# Altium schematic symbol library OT Library.SchLib: 412 symbols (part 2 of 4)
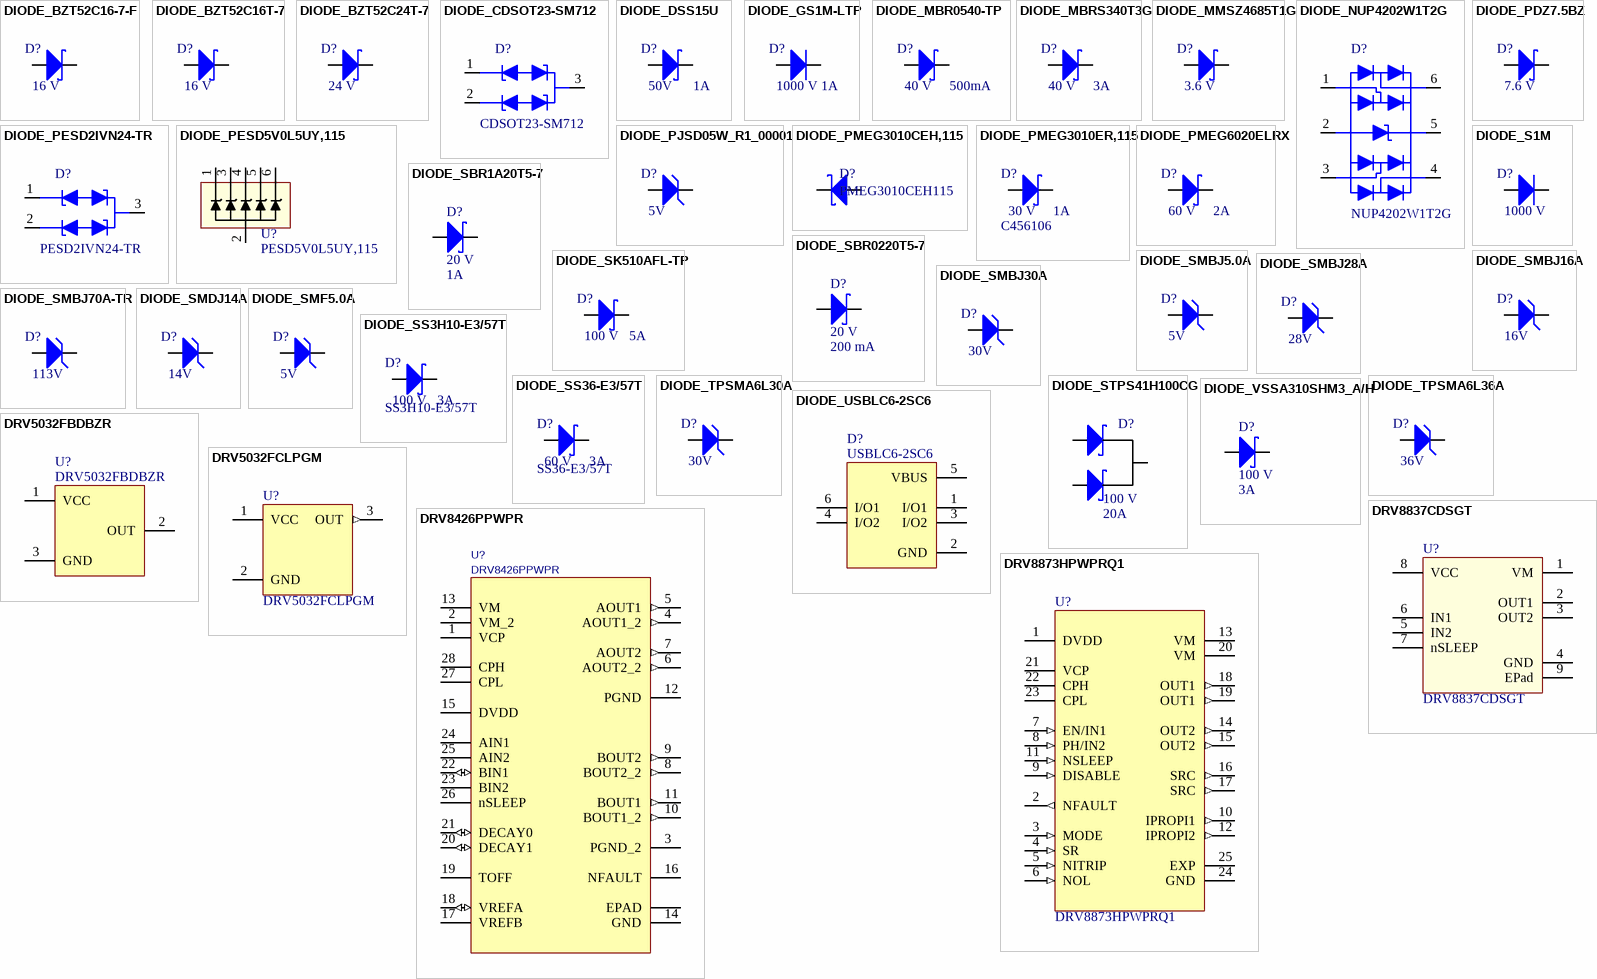
[diagram p14: symbols DIODE_BZT52C16-7-F to DRV8873HPWPRQ1]

## DIODE_PJSD05W_R1_00001
designator D?, comment Voltage - Reverse Standoff (Typ): 5V  (hidden comment: PJSD05W_R1_00001)
TVS DIODE 5VWM 9.8VC SOD323; Manufacturer: Panjit International Inc.; Manufacturer Part Number: PJSD05W_R1_00001
footprint SOD-323 (SC-76, SOD-323)
pins: 1 K, 2 A

## DIODE_PMEG3010CEH,115
designator D?, comment PMEG3010CEH115
Diode Schottky 30 V 1A (DC) Surface Mount SOD-123F; Manufacturer: NXP Semiconductors; Element Configuration: Single; Max Reverse Current: 50uA; Max Surge Current: 9A; Max Repetitive Reverse Voltage (Vrrm): 30V; Forward Voltage: 520mV; Supplier 1: Future Electronics; Manufacturer Part Number: PMEG3010CEH115; Stock 1: 0; Mount: Surface Mount; Number of Pins: 2; Min Operating Temperature: -65°C; Max Operating Temperature: 150°C; Packaging: Tape and Reel; Forward Current: 1A; Package Quantity: 1; Max Reverse Leakage Current: 50uA; Peak Non-Repetitive Surge Current: 9A; Average Rectified Current: 1A; Max Forward Surge Current (Ifsm): 9A; Max Reverse Voltage (DC): 30V; Series: 1A (DC); Length: 2.7mm; Width: 1.7mm; Height: 1.2mm; Radiation Hardening: No; Lead Free: Lead Free; ComponentLink1URL: http://www.nxp.com/documents/data_sheet/PMEG3010CEH_PMEG3010CEJ.pdf?src-supplier=Digi-Key; ComponentLink1Description: http://www.nxp.com/documents/data_sheet/PMEG3010CEH_PMEG3010CEJ.pdf?src-supplier=Digi-Key; ComponentLink2URL: http://www.nxp.com/documents/data_sheet/PMEG3010CEH_PMEG3010CEJ.pdf?src-supplier=Future+Electronics; ComponentLink2Description: http://www.nxp.com/documents/data_sheet/PMEG3010CEH_PMEG3010CEJ.pdf?src-supplier=Future+Electronics; Supplier Part Number 1: PMEG3010CEH,115
footprint SOD-123F
pins: 1 K, 2 A

## DIODE_PMEG3010ER,115
designator D?, comment Voltage - DC Reverse (Vr) (Max): 30 V  Current - Average Rectified (Io): 1A  LCSC Part: C456106  (hidden comment: PMEG3010ER,115)
DIODE SCHOTTKY 30V 1A SOD123W; Manufacturer: Nexperia USA Inc.; Manufacturer Part Number: PMEG3010ER,115; Datasheet: https://assets.nexperia.com/documents/data-sheet/PMEG3010ER.pdf
footprint SOD-123W
pins: 1 K, 2 A

## DIODE_PMEG6020ELRX
designator D?, comment Voltage - DC Reverse (Vr) (Max): 60 V  Current - Average Rectified (Io): 2A  (hidden comment: PMEG6020ELRX)
DIODE SCHOTTKY 60V 2A SOD123W; Manufacturer: Nexperia USA Inc.; Manufacturer Part Number: PMEG6020ELRX; Datasheet: https://assets.nexperia.com/documents/data-sheet/PMEG6020ELR.pdf
footprint SOD-123W
pins: 1 K, 2 A

## DIODE_S1M
designator D?, comment Voltage - DC Reverse (Vr) (Max): 1000 V  (hidden comment: S1M)
DIODE GEN PURP 1KV 1A SMA; Manufacturer: SMC Diode Solutions; Manufacturer Part Number: S1M; Current - Average Rectified (Io): 1A; LCSC Part: C232826
footprint DO-214AC (SMA)
pins: 1 K, 2 A

## DIODE_SBR1A20T5-7
designator D?, comment Voltage - DC Reverse (Vr) (Max): 20 V  Current - Average Rectified (Io): 1A  (hidden comment: SBR1A20T5-7)
DIODE SBR 20V 1A SOD523; Manufacturer: Diodes Incorporated; Manufacturer Part Number: SBR1A20T5-7; LCSC Part: C5157758
footprint SOD-523 (SC-79, SOD-523)
pins: 1 K, 2 A

## DIODE_SBR0220T5-7
designator D?, comment Voltage - DC Reverse (Vr) (Max): 20 V  Current - Average Rectified (Io): 200 mA  (hidden comment: SBR0220T5-7)
DIODE SBR 20V 200MA SOD523; Manufacturer: Diodes Incorporated; Manufacturer Part Number: SBR0220T5-7; LCSC Part: C700438
footprint SOD-523 (SC-79, SOD-523)
pins: 1 K, 2 A

## DIODE_SK510AFL-TP
designator D?, comment Voltage - DC Reverse (Vr) (Max): 100 V  Current - Average Rectified (Io): 5A  (hidden comment: SK510AFL-TP)
DIODE SCHOTTKY 100V 5A DO221AC; Manufacturer: Micro Commercial Co; Manufacturer Part Number: SK510AFL-TP; Datasheet: https://www.mccsemi.com/pdf/Products/SK52AFL-SK5200AFL(DO-221AC).pdf; LCSC Part: C5241914
footprint DO-221AC (SMA-FL)
pins: 1 K, 2 A

## DIODE_SMBJ5.0A
designator D?, comment Voltage - Reverse Standoff (Typ): 5V  (hidden comment: SMBJ5.0A)
TVS DIODE 5VWM 9.2VC DO214AA; Manufacturer: Littelfuse Inc.; Manufacturer Part Number: SMBJ5.0A; LCSC Part: C83333
footprint DO-214AA (SMBJ)
pins: 1 K, 2 A

## DIODE_SMBJ16A
designator D?, comment Voltage - Reverse Standoff (Typ): 16V  (hidden comment: SMBJ16A)
TVS DIODE 16VWM 26VC DO214AA; Manufacturer: Littelfuse Inc.; Manufacturer Part Number: SMBJ16A; Datasheet: https://www.littelfuse.com/~/media/electronics/datasheets/tvs_diodes/littelfuse_tvs_diode_smbj_datasheet.pdf.pdf; LCSC Part: C151254
footprint DO-214AA (SMBJ)
pins: 1 K, 2 A

## DIODE_SMBJ28A
designator D?, comment Voltage - Reverse Standoff (Typ): 28V  (hidden comment: SMBJ28A)
TVS DIODE 28VWM 45.4VC DO214AA; Manufacturer: Littelfuse Inc.; Manufacturer Part Number: SMBJ28A; LCSC Part: C178227
footprint DO-214AA (SMBJ)
pins: 1 K, 2 A

## DIODE_SMBJ30A
designator D?, comment Voltage - Reverse Standoff (Typ): 30V  (hidden comment: SMBJ30A)
TVS DIODE 30VWM 48.4VC DO214AA; Manufacturer: Littelfuse Inc.; Manufacturer Part Number: SMBJ30A; LCSC Part: C83851
footprint DO-214AA (SMBJ)
pins: 1 K, 2 A

## DIODE_SMBJ70A-TR
designator D?, comment Voltage - Reverse Standoff (Typ): 113V  (hidden comment: SMBJ70A-TR)
TVS DIODE 70VWM 113VC SMB; Manufacturer: STMicroelectronics; Manufacturer Part Number: SMBJ70A-TR
footprint DO-214AA (SMBJ)
pins: 1 K, 2 A

## DIODE_SMDJ14A
designator D?, comment Voltage - Reverse Standoff (Typ): 14V  (hidden comment: SMDJ14A)
TVS DIODE 14VWM 23.2VC DO214AB; Manufacturer: Littelfuse Inc.; Manufacturer Part Number: SMDJ14A; LCSC Part: C1975662
footprint DO-214AB (SMC)
pins: 1 K, 2 A

## DIODE_SMF5.0A
designator D?, comment Voltage - Reverse Standoff (Typ): 5V  (hidden comment: SMF5.0A)
TVS SOD123FL 5V 200W UNIDIR; Manufacturer: Littelfuse Inc.; Manufacturer Part Number: SMF5.0A
footprint SOD123FL
pins: 1 K, 2 A

## DIODE_SS3H10-E3/57T
designator D?, comment Voltage - DC Reverse (Vr) (Max): 100 V  Current - Average Rectified (Io): 3A  (hidden comment: SS3H10-E3/57T)
DIODE SCHOTTKY 100V 3A DO214AB; Manufacturer: Vishay General Semiconductor - Diodes Division; LCSC Part: C2927417; Manufacturer Part Number: SS3H10-E3/57T
footprint DO-214AB (SMC)
pins: 1 K, 2 A

## DIODE_SS36-E3/57T
designator D?, comment Voltage - DC Reverse (Vr) (Max): 60 V  Current - Average Rectified (Io): 3A  (hidden comment: SS36-E3/57T)
DIODE SCHOTTKY 60V 3A DO214AB; Manufacturer: Vishay General Semiconductor - Diodes Division; LCSC Part: C35722; Manufacturer Part Number: SS36-E3/57T
footprint DO-214AB (SMC)
pins: 1 K, 2 A

## DIODE_STPS41H100CG
designator D?, comment Voltage - DC Reverse (Vr) (Max): 100 V  Current - Average Rectified (Io): 20A  (hidden comment: STPS41H100CG)
DIODE ARR SCHOTT 100V 20A D2PAK; Manufacturer: STMicroelectronics; Manufacturer Part Number: STPS41H100CG; LCSC Part: C2970806
footprint PG-TO263-3 (TO-263-3, D2PAK (2 Leads + Tab), TO-263AB)
pins: 1 A, 2 K, 3 A

## DIODE_TPSMA6L30A
designator D?, comment Voltage - Reverse Standoff (Typ): 30V  (hidden comment: TPSMA6L30A)
TVS DIODE 30VWM 48.4VC DO221AC; Manufacturer: Littelfuse Inc.; Manufacturer Part Number: TPSMA6L30A; Datasheet: https://www.littelfuse.com/~/media/electronics/datasheets/tvs_diodes/littelfuse_tvs_diode_tpsma6l_datasheet.pdf.pdf
footprint DO-221AC (SMA-FL)
pins: 1 K, 2 A

## DIODE_TPSMA6L36A
designator D?, comment Voltage - Reverse Standoff (Typ): 36V  (hidden comment: TPSMA6L36A)
TVS DIODE 36VWM 58.1VC DO221AC; Manufacturer: Littelfuse Inc.; Manufacturer Part Number: TPSMA6L36A; Datasheet: https://www.littelfuse.com/~/media/electronics/datasheets/tvs_diodes/littelfuse_tvs_diode_tpsma6l_datasheet.pdf.pdf
footprint DO-221AC (SMA-FL)
pins: 1 K, 2 A

## DIODE_USBLC6-2SC6
designator D?, comment USBLC6-2SC6
TVS DIODE 5.25VWM 17VC SOT23-6; Manufacturer: STMicroelectronics; Voltage - Reverse Standoff (Typ): 5.25 V; Manufacturer Part Number: USBLC6-2SC6; Datasheet: https://www.st.com/content/ccc/resource/technical/document/datasheet/06/1d/48/9c/6c/20/4a/b2/CD00050750.pdf/files/CD00050750.pdf/jcr:content/translations/en.CD00050750.pdf; LCSC Part: C7519
footprint SOT-23-6
pins: 1 I/O1, 2 GND, 3 I/O2, 4 I/O2, 5 VBUS, 6 I/O1

## DIODE_VSSA310SHM3_A/H
designator D?, comment Voltage - DC Reverse (Vr) (Max): 100 V  Current - Average Rectified (Io): 3A  (hidden comment: VSSA310SHM3_A/H)
DIODE SCHOTTKY 100V 3A DO214AC; Manufacturer: Vishay General Semiconductor - Diodes Division; Manufacturer Part Number: VSSA310SHM3_A/H; Datasheet: https://www.vishay.com/docs/89405/vssa310s.pdf; LCSC Part: C282271
footprint DO-214AC (SMA)
pins: 1 K, 2 A

## DRV5032FBDBZR
designator U?
MAGNETIC SWITCH OMNIPOL SOT23-3; Manufacturer: Texas Instruments; Function: Omnipolar Switch; Polarization: North Pole, South Pole; Voltage - Supply: 1.65V ~ 5.5V; Current - Supply (Max): 1.8µA; Output Type: Push-Pull; Manufacturer Part Number: DRV5032FBDBZR; Category: Magnetic Sensors; Operating Temperature: -40°C ~ 85°C
footprint SOT-23 (TO-236AB)
pins: 1 VCC, 2 OUT, 3 GND

## DRV5032FCLPGM
designator U?
MAGNETIC SWITCH OMNIPOLAR TO92-3; Manufacturer: Texas Instruments; Manufacturer Part Number: DRV5032FCLPGM; LCSC Part: C2866256; LCSC Part 2: C2862715
footprint TO-92-3 (Footprint not found)
pins: 1 VCC (power), 2 GND (power), 3 OUT (out)

## DRV8426PPWPR
designator U?
35-V, 1.5-A BIPOLAR STEPPER OR D; Manufacturer: Texas Instruments; Manufacturer Part Number: DRV8426PPWPR; Datasheet: https://www.ti.com/general/docs/suppproductinfo.tsp?distId=10&gotoUrl=http%3A%2F%2Fwww.ti.com%2Flit%2Fgpn%2Fdrv8426e
footprint HTSSOP-28
pins: 1 VCP, 2 VM_2, 3 PGND_2 (power), 4 AOUT1_2 (out), 5 AOUT1 (out), 6 AOUT2_2 (out), 7 AOUT2 (out), 8 BOUT2_2 (out), 9 BOUT2 (out), 10 BOUT1_2 (out), 11 BOUT1 (out), 12 PGND (power), 13 VM, 14 GND (power), 15 DVDD (power), 16 NFAULT, 17 VREFB (power), 18 VREFA (io), 19 TOFF, 20 DECAY1 (io), 21 DECAY0 (io), 22 BIN1 (io), 23 BIN2, 24 AIN1, 25 AIN2, 26 nSLEEP, 27 CPL, 28 CPH, EPAD

## DRV8837CDSGT
designator U?
IC HALF-BRIDGE DRVR PWM 8WSON; Manufacturer: Texas Instruments; Manufacturer Part Number: DRV8837CDSGT; LCSC Part: C165115
footprint 8-WFDFN (2x2) Exposed Pad
pins: 1 VM, 2 OUT1, 3 OUT2, 4 GND, 5 IN2, 6 IN1, 7 nSLEEP, 8 VCC, 9 EPad

## DRV8873HPWPRQ1
designator U?
IC MOTOR DRIVER STEP 5V 24HTSSOP; Manufacturer: Texas Instruments; Manufacturer Part Number: DRV8873HPWPRQ1; LCSC Part: C2150604
footprint 24-HTSSOP (24-PowerTSSOP (0.173", 4.40mm Width))
pins: 1 DVDD (power), 2 NFAULT (out), 3 MODE (in), 4 SR (in), 5 NITRIP (in), 6 NOL (in), 7 EN/IN1 (in), 8 PH/IN2 (in), 9 DISABLE (in), 10 IPROPI1 (out), 11 NSLEEP (in), 12 IPROPI2 (out), 13 VM (power), 14 OUT2 (out), 15 OUT2 (out), 16 SRC (out), 17 SRC (out), 18 OUT1 (out), 19 OUT1 (out), 20 VM (power), 21 VCP (power), 22 CPH (power), 23 CPL (power), 24 GND (power), 25 EXP

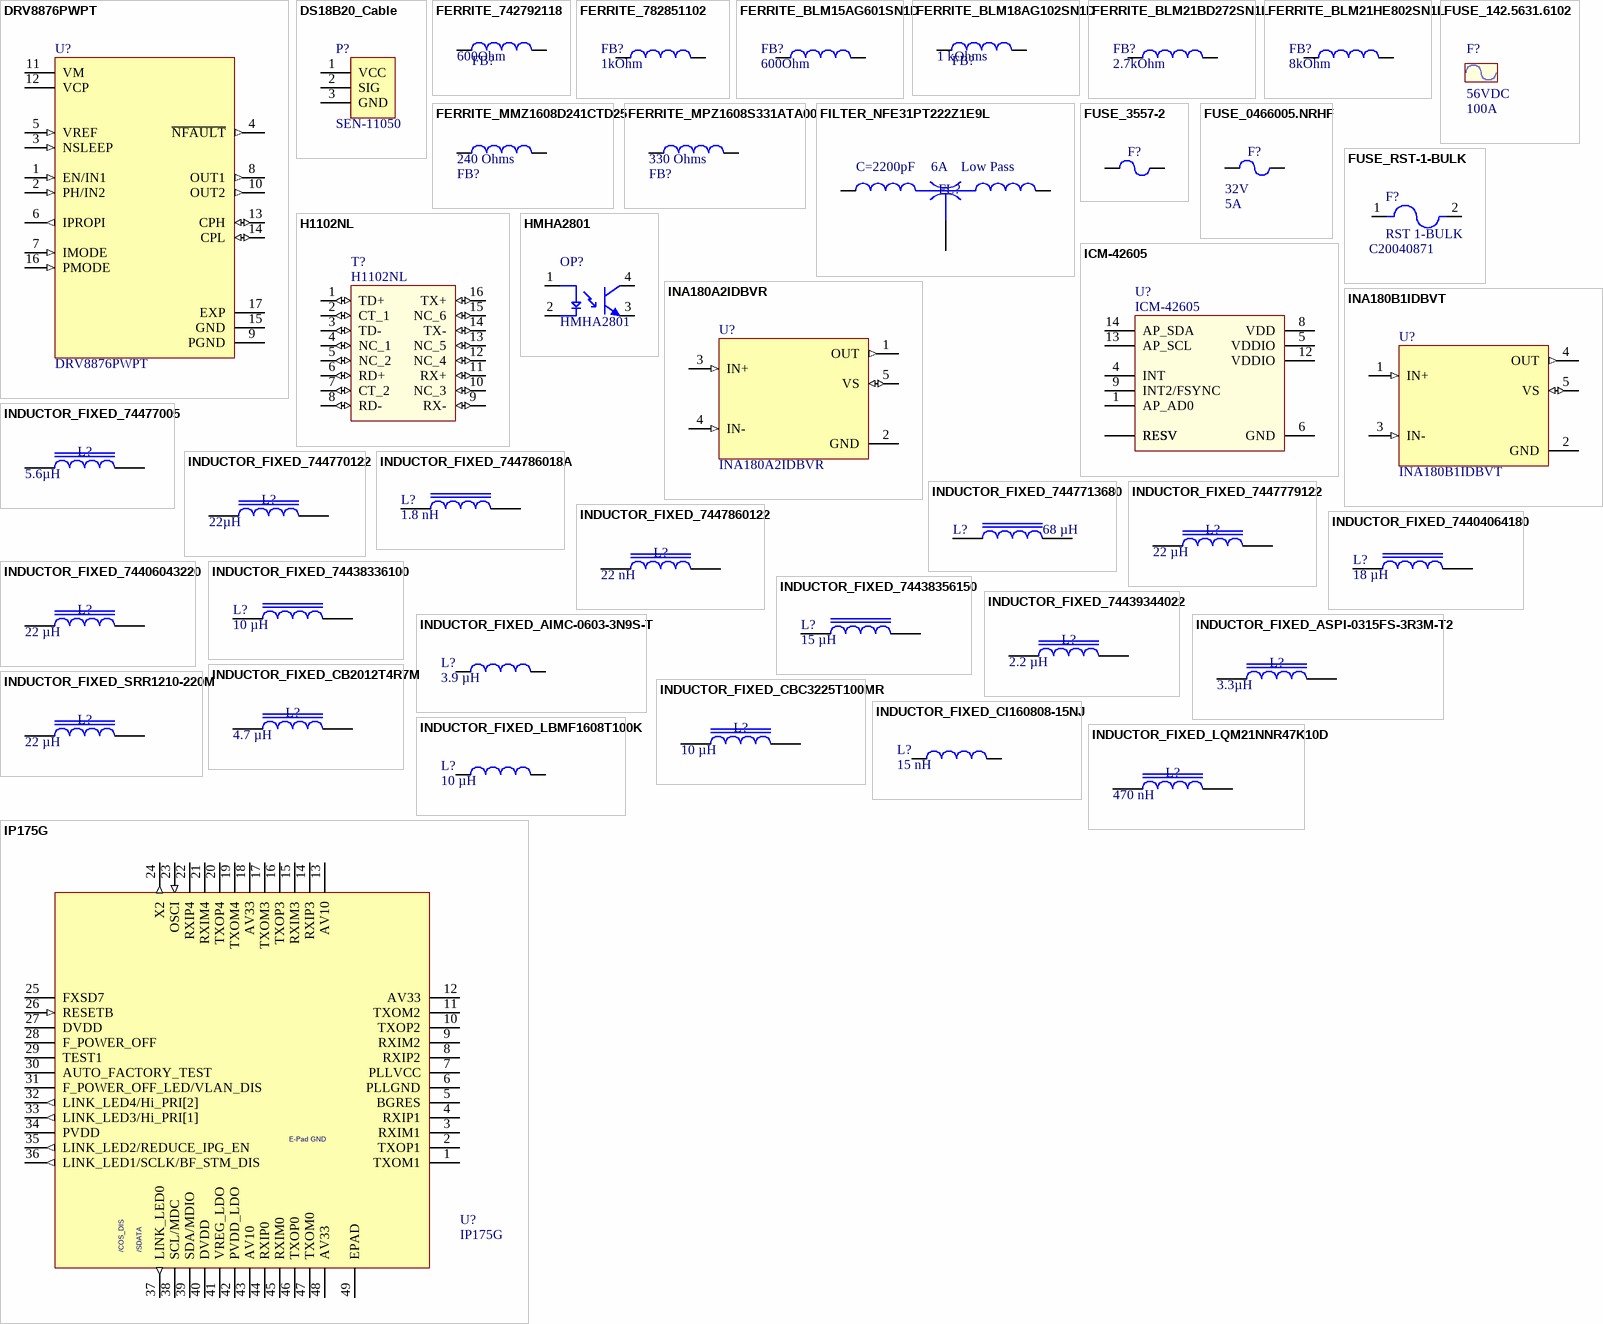
[diagram p5: symbols DRV8876PWPT to IP175G]

## DRV8876PWPT
designator U?
IC MOTOR DRIVER DC 5.5V 16HTSSOP; Manufacturer: Texas Instruments; Manufacturer Part Number: DRV8876PWPT; Datasheet: https://www.ti.com/general/docs/suppproductinfo.tsp?distId=10&gotoUrl=https%3A%2F%2Fwww.ti.com%2Flit%2Fgpn%2Fdrv8876; LCSC Part: C575551
footprint 16-HTSSOP (16-PowerTSSOP (0.173", 4.40mm Width))
pins: 1 EN/IN1 (in), 2 PH/IN2 (in), 3 NSLEEP (in), 4 ~{NFAULT} (out), 5 VREF (in), 6 IPROPI (out), 7 IMODE (in), 8 OUT1 (out), 9 PGND (power), 10 OUT2 (out), 11 VM (power), 12 VCP (power), 13 CPH (io), 14 CPL (io), 15 GND (power), 16 PMODE (in), 17 EXP

## DS18B20_Cable
designator P?, comment SEN-11050
TEMP SENSOR WTRPRF DS18B20 11050; Manufacturer: SparkFun Electronics; Manufacturer Part Number: SEN-11050
footprint DS18B20_Cable (Footprint not found)
pins: 1 VCC, 2 SIG, 3 GND

## FERRITE_742792118
designator FB?, comment Impedance @100MHz: 600Ohm  (hidden comment: 742792118)
FERRITE BEAD 600 OHM 1206 1LN; Manufacturer: Wurth Elektronik; DC Resistance Max: 0.07Ohm; Impedance Max: 650Ohm; Impedance Max Test Condition: 80MHz; Manufacturer Part Number: 742792118; Datasheet: https://www.we-online.com/katalog/datasheet/742792118.pdf
footprint FERRITE_1206 (SMD EMI Suppression Ferrite  Bead, body 3.20x1.60mm)
pins: 1, 2

## FERRITE_782851102
designator FB?, comment Impedance @100MHz: 1kOhm  (hidden comment: 782851102)
FERRITE BEAD 1K OHM 0805 1LN; Manufacturer: Wurth Elektronik; DC Resistance Max: 350mOhm; Manufacturer Part Number: 782851102
footprint FERRITE_0805 (SMD EMI Suppression Ferrite Bead, 2-Leads, body 2.00x1.20mm)
pins: 1, 2

## FERRITE_BLM15AG601SN1D
designator FB?, comment Impedance @100MHz: 600Ohm  (hidden comment: BLM15AG601SN1D)
FERRITE BEAD 600 OHM 0402 1LN; Manufacturer: Murata Electronics; DC Resistance Max: 520mOhm; Manufacturer Part Number: BLM15AG601SN1D
footprint FERRITE_0402 (0.039" L x 0.022" W (1.00mm x 0.55mm))
pins: 1, 2

## FERRITE_BLM18AG102SN1D
designator FB?, comment Impedance @100MHz: 1 kOhms  (hidden comment: BLM18AG102SN1D)
FERRITE BEAD 1K OHM 0603 1LN; Manufacturer: Murata Electronics; DC Resistance Max: 500mOhm; Current Rating (Max): 450mA; Manufacturer Part Number: BLM18AG102SN1D; Datasheet: https://www.murata.com/en-us/products/productdata/8796738650142/ENFA0003.pdf
footprint FERRITE_0603 (0.063" L x 0.032" W (1.60mm x 0.80mm))
pins: 1, 2

## FERRITE_BLM21BD272SN1L
designator FB?, comment Impedance @100MHz: 2.7kOhm  (hidden comment: BLM21BD272SN1L)
FERRITE BEAD 2.7K OHM 0805 1LN; Manufacturer: Murata Electronics; DC Resistance Max: 800mOhm; Manufacturer Part Number: BLM21BD272SN1L
footprint FERRITE_0805 (SMD EMI Suppression Ferrite Bead, 2-Leads, body 2.00x1.20mm)
pins: 1, 2

## FERRITE_BLM21HE802SN1L
designator FB?, comment Impedance @100MHz: 8kOhm  (hidden comment: BLM21HE802SN1L)
FERRITE BEAD 8K OHM 0805 1LN; Manufacturer: Murata Electronics; DC Resistance Max: 700mOhm; Manufacturer Part Number: BLM21HE802SN1L
footprint FERRITE_0805 (SMD EMI Suppression Ferrite Bead, 2-Leads, body 2.00x1.20mm)
pins: 1, 2

## FERRITE_MMZ1608D241CTD25
designator FB?, comment Impedance @100MHz: 240 Ohms  (hidden comment: MMZ1608D241CTD25)
FERRITE BEAD 240 OHM 0603 1LN; Manufacturer: TDK Corporation; DC Resistance Max: 600mOhm; Current Rating (Max): 300 mA; Manufacturer Part Number: MMZ1608D241CTD25; LCSC Part: C2661641
footprint FERRITE_0603 (0.063" L x 0.032" W (1.60mm x 0.80mm))
pins: 1, 2

## FERRITE_MPZ1608S331ATA00
designator FB?, comment Impedance @100MHz: 330 Ohms  (hidden comment: MPZ1608S331ATA00)
FERRITE BEAD 330 OHM 0603 1LN; Manufacturer: TDK Corporation; DC Resistance Max: 80mOhm; Current Rating (Max): 1.7A; Manufacturer Part Number: MPZ1608S331ATA00; LCSC Part: C275487
footprint FERRITE_0603 (0.063" L x 0.032" W (1.60mm x 0.80mm))
pins: 1, 2

## FILTER_NFE31PT222Z1E9L
designator FL?, comment Type: Low Pass  Values: C=2200pF  Current: 6A  (hidden comment: NFE31PT222Z1E9L)
FILTER LC(T) 2200PF SMD; Manufacturer: Murata Electronics; Manufacturer Part Number: NFE31PT222Z1E9L; Datasheet: https://www.murata.com/en-global/products/productdata/8796766699550/ENFE0002.pdf
footprint FILTER_1206 (1206 (3216 Metric), 3 PC Pad)
pins: 1 IN, 2 GND (power), 2_1 GND (power), 2_2 GND (power), 3 OUT

## FUSE_142.5631.6102
designator F?, comment Voltage - Max: 56VDC  Current - Hold (Ih) (Max): 100A  (hidden comment: 142.5631.6102)
FUSE AUTO 100A 58VDC AUTO LINK; Manufacturer: Littelfuse Inc.; Manufacturer Part Number: 142.5631.6102; LCSC Part: C187679
footprint 142.5631.6102 (FUSE)

## FUSE_3557-2
designator F?, comment 3557-2  (value not drawn)
FUSE BLOCK BLADE 500V 30A PCB; Manufacturer: Littelfuse Inc.; Manufacturer Part Number: 3557-2; LCSC Part: C352820
footprint FUSE_Keystone_3557-2
pins: 1, 2, 3, 4

## FUSE_0466005.NRHF
designator F?, comment Voltage - Max: 32V  Current - Hold (Ih) (Max): 5A  (hidden comment: 0466005.NRHF)
FUSE BRD MNT 5A 32VAC 32VDC 1206; Manufacturer: Littelfuse Inc.; Manufacturer Part Number: 0466005.NRHF; LCSC Part: C57525
footprint PTC_1206 (0.126" L x 0.063" W (3.20mm x 1.60mm))
pins: 1, 2

## FUSE_RST-1-BULK
designator F?, comment RST 1-BULK  LCSC Part: C20040871
FUSE BOARD MNT 1A 250VAC RADIAL; Manufacturer: Bel; Manufacturer Part Number: RST 1-BULK; ComponentLink1URL: https://belfuse.com/resources/datasheets/circuitprotection/ds-cp-rst-series.pdf?src-supplier=Digi-Key; ComponentLink1Description: https://belfuse.com/resources/datasheets/circuitprotection/ds-cp-rst-series.pdf?src-supplier=Digi-Key
footprint FUSE_RST-1-BULK
pins: 1, 2

## H1102NL
designator T?
MODULE XFRMR SGL ETHR LAN 16SOIC; Manufacturer: Pulse Electronics; Manufacturer Part Number: H1102NL; LCSC Part: C18584
footprint H1102NL
pins: 1 TD+ (io), 2 CT_1 (io), 3 TD- (io), 4 NC_1 (io), 5 NC_2 (io), 6 RD+ (io), 7 CT_2 (io), 8 RD- (io), 9 RX- (io), 10 NC_3 (io), 11 RX+ (io), 12 NC_4 (io), 13 NC_5 (io), 14 TX- (io), 15 NC_6 (io), 16 TX+ (io)

## HMHA2801
designator OP?
OPTOISO 3.75KV TRANSISTOR 4SMD; Manufacturer: onsemi; Manufacturer Part Number: HMHA2801; LCSC Part: C232857
footprint 4-SOIC (4-SSOP (0.173", 4.40mm Width))
pins: 1 A, 2 C, 3 ET, 4 CT

## ICM-42605
designator U?
IMU ACCEL/GYRO/TEMP I2C/SPI LGA; Manufacturer: TDK InvenSense; Manufacturer Part Number: ICM-42605; LCSC Part: C2655099
footprint LGA14 (14 Lead LGA (2.5x3x0.91) mm)
pins: 1 AP_AD0, 2 RESV, 3 RESV, 4 INT, 5 VDDIO, 6 GND, 7 RESV, 8 VDD, 9 INT2/FSYNC, 10 RESV, 11 RESV, 12 VDDIO, 13 AP_SCL, 14 AP_SDA

## INA180A2IDBVR
designator U?
IC CURR SENSE 1 CIRCUIT SOT23-5; Manufacturer: Texas Instruments; Manufacturer Part Number: INA180A2IDBVR; Datasheet: https://www.ti.com/general/docs/suppproductinfo.tsp?distId=10&gotoUrl=https%3A%2F%2Fwww.ti.com%2Flit%2Fgpn%2Fina180; LCSC Part: C192764
footprint SOT-23-5 (SC-74A, SOT-753)
pins: 1 OUT (out), 2 GND (power), 3 IN+ (in), 4 IN- (in), 5 VS (io)

## INA180B1IDBVT
designator U?
IC CURRENT SENSE 1 CIRCUIT SOT23-5; Manufacturer: Texas Instruments; Manufacturer Part Number: INA180B1IDBVT; Datasheet: https://www.ti.com/general/docs/suppproductinfo.tsp?distId=10&gotoUrl=https%3A%2F%2Fwww.ti.com%2Flit%2Fgpn%2Fina180
footprint SOT-23-5 (SC-74A, SOT-753)
pins: 1 IN+ (in), 2 GND (power), 3 IN- (in), 4 OUT (out), 5 VS (io)

## INDUCTOR_FIXED_74477005
designator L?, comment Inductance: 5.6µH  (hidden comment: 74477005)
FIXED IND 5.6UH 8A 17 MOHM SMD; Manufacturer: Würth Elektronik; Current - Saturation (Isat): 8.2A; DC Resistance (DCR): 17mOhm Max; Manufacturer Part Number: 74477005; Current Rating (Amps): 8 A
footprint INDUCTOR_FIXED_1280 (SMT Shielded Power Inductor, 2-leads, body 12x12mm)
pins: 1, 2

## INDUCTOR_FIXED_744770122
designator L?, comment Inductance: 22µH  (hidden comment: 744770122)
FIXED IND 22UH 4.1A 43 MOHM SMD; Manufacturer: Würth Elektronik; Current Rating (Amps): 4.6A; Current - Saturation (Isat): 5A; DC Resistance (DCR): 43mOhm Max; Manufacturer Part Number: 744770122
footprint INDUCTOR_FIXED_1280 (SMT Shielded Power Inductor, 2-leads, body 12x12mm)
pins: 1, 2

## INDUCTOR_FIXED_744786018A
designator L?, comment Inductance: 1.8 nH  (hidden comment: 744786018A)
FIXED IND 1.8NH 600MA 100MOHM SMD; Manufacturer: Würth Elektronik; DC Resistance (DCR): 100mOhm Max; Manufacturer Part Number: 744786018A; Current Rating (Amps): 600 mA; Current - Saturation (Isat): -; LCSC Part: C2041577
footprint INDUCTOR_FIXED_0603 (SMD Multilayer Ceramic Inductor, body 1.60x0.80mm)
pins: 1, 2

## INDUCTOR_FIXED_7447713680
designator L?, comment Inductance: 68 µH  (hidden comment: 7447713680)
FIXED IND 68UH 1.1A 330 MOHM SMD; Manufacturer: Würth Elektronik; Manufacturer Part Number: 7447713680
footprint INDUCTOR_FIXED_10X10 (SMD Shielded Power Inductor, 2-leads, body 10x10mm)
pins: 1, 2

## INDUCTOR_FIXED_7447779122
designator L?, comment Inductance: 22 µH  (hidden comment: 7447779122)
FIXED IND 22UH 1.41A 110MOHM SMD; Manufacturer: Würth Elektronik; Current - Saturation (Isat): 1.7A; DC Resistance (DCR): 110mOhm Max; Manufacturer Part Number: 7447779122; Current Rating (Amps): 1.41 A
footprint INDUCTOR_FIXED_7.3MMx7.3MM (SMD Shielded Power Inductor, 2-leads, body 7.3x7.3mm)
pins: 1, 2

## INDUCTOR_FIXED_7447860122
designator L?, comment Inductance: 22 nH  (hidden comment: 7447860122)
FIXED IND 22NH 300MA 400MOHM SMD; Manufacturer: Würth Elektronik; DC Resistance (DCR): 400mOhm Max; Manufacturer Part Number: 7447860122; Current Rating (Amps): 300 mA; Current - Saturation (Isat): -
footprint INDUCTOR_FIXED_0603 (SMD Multilayer Ceramic Inductor, body 1.60x0.80mm)
pins: 1, 2

## INDUCTOR_FIXED_74404064180
designator L?, comment Inductance: 18 µH  (hidden comment: 74404064180)  (mechanical)
FIXED IND 18UH 1.85A 81 MOHM SMD; Manufacturer: Würth Elektronik; Current Rating (Amps): 1.8 A; Current - Saturation (Isat): 2.4 A; DC Resistance (DCR): 81mOhm; Manufacturer Part Number: 74404064180
footprint INDUCTOR_FIXED_6045 (SMD Power Inductor, 2-Leads, body 6x6mm)
pins: 1, 2

## INDUCTOR_FIXED_74406043220
designator L?, comment Inductance: 22 µH  (hidden comment: 74406043220)
FIXED IND 22UH 1.23A 172MOHM SMD; Manufacturer: Würth Elektronik; Current - Saturation (Isat): 770mA; DC Resistance (DCR): 172mOhm Max; Manufacturer Part Number: 74406043220; Current Rating (Amps): 1.23 A
footprint INDUCTOR_FIXED_4828 (Footprint not found)
pins: 1, 2

## INDUCTOR_FIXED_74438336100
designator L?, comment Inductance: 10 µH  (hidden comment: 74438336100)
FIXED IND 10UH 1.2A 322 MOHM SMD; Manufacturer: Würth Elektronik; Current - Saturation (Isat): 2.35A; DC Resistance (DCR): 322mOhm Max; Manufacturer Part Number: 74438336100; Current Rating (Amps): 1.2 A
footprint INDUCTOR_FIXED_1212 (0.118" L x 0.118" W (3.00mm x 3.00mm))
pins: 1, 2

## INDUCTOR_FIXED_74438356150
designator L?, comment Inductance: 15 µH  (hidden comment: 74438356150)
FIXED IND 15UH 1.9A 230MOHM SMD; Manufacturer: Würth Elektronik; Current - Saturation (Isat): 2.1 A; DC Resistance (DCR): 230mOhm Max; Manufacturer Part Number: 74438356150; Current Rating (Amps): 1.9 A
footprint INDUCTOR_FIXED_1616 (0.161" L x 0.161" W (4.10mm x 4.10mm))
pins: 1, 2

## INDUCTOR_FIXED_74439344022
designator L?, comment Inductance: 2.2 µH  (hidden comment: 74439344022)
FIXED IND 2.2UH 8A 10.5MOHM SMD; Manufacturer: Würth Elektronik; Current - Saturation (Isat): 16 A; Manufacturer Part Number: 74439344022; Current Rating (Amps): 8 A; DC Resistance (DCR): 10.5mOhm
footprint INDUCTOR_FIXED_6.65mmx6.45mm (SMT Power Inductor, 2-Leads, body 6.65x6.45mm)
pins: 1, 2

## INDUCTOR_FIXED_AIMC-0603-3N9S-T
designator L?, comment Inductance: 3.9 µH  (hidden comment: AIMC-0603-3N9S-T)
FIXED IND 3.9NH 500MA 140MOHM SM; Manufacturer: Abracon LLC; Manufacturer Part Number: AIMC-0603-3N9S-T; LCSC Part: C2042101
footprint INDUCTOR_FIXED_0603 (SMD Multilayer Ceramic Inductor, body 1.60x0.80mm)
pins: 1, 2

## INDUCTOR_FIXED_ASPI-0315FS-3R3M-T2
designator L?, comment Inductance: 3.3µH  (hidden comment: ASPI-0315FS-3R3M-T2)
FIXED IND 3.3UH 1.8A 75 MOHM SMD; Manufacturer: Abracon LLC; Current Rating (Amps): 1.36A; Current - Saturation (Isat): 1.32A; DC Resistance (DCR): 10mOhm Max; Manufacturer Part Number: ASPI-0315FS-3R3M-T2
footprint INDUCTOR_FIXED_1212 (0.118" L x 0.118" W (3.00mm x 3.00mm))
pins: 1, 2

## INDUCTOR_FIXED_CB2012T4R7M
designator L?, comment Inductance: 4.7 µH  (hidden comment: CB2012T4R7M)
FIXED IND 4.7UH 580MA 520MOHM SMD; Manufacturer: Taiyo Yuden; Current - Saturation (Isat): 300mA; DC Resistance (DCR): 520mOhm Max; Manufacturer Part Number: CB2012T4R7M; Current Rating (Amps): 580 mA; LCSC Part: C90313
footprint INDUCTOR_FIXED_0805
pins: 1, 2

## INDUCTOR_FIXED_CBC3225T100MR
designator L?, comment Inductance: 10 µH  (hidden comment: CBC3225T100MR)
FIXED IND 10UH 900MA 172.9 MOHM; Manufacturer: Taiyo Yuden; DC Resistance (DCR): 172.9mOhm Max; Manufacturer Part Number: CBC3225T100MR; Current Rating (Amps): 900mA; Current - Saturation (Isat): 900mA; LCSC Part: C90315
footprint INDUCTOR_FIXED_1210 (0.126" L x 0.098" W (3.20mm x 2.50mm))
pins: 1, 2

## INDUCTOR_FIXED_CI160808-15NJ
designator L?, comment Inductance: 15 nH  (hidden comment: CI160808-15NJ)
FIXED IND 15NH 300MA 450MOHM SMD; Manufacturer: Bourns Inc.; Manufacturer Part Number: CI160808-15NJ; LCSC Part: C3910564
footprint INDUCTOR_FIXED_0603 (SMD Multilayer Ceramic Inductor, body 1.60x0.80mm)
pins: 1, 2

## INDUCTOR_FIXED_LBMF1608T100K
designator L?, comment Inductance: 10 µH  (hidden comment: LBMF1608T100K)
FIXED IND 10UH 80MA 360 MOHM SMD; Manufacturer: Taiyo Yuden; Manufacturer Part Number: LBMF1608T100K; LCSC Part: C87216
footprint INDUCTOR_FIXED_0603 (SMD Multilayer Ceramic Inductor, body 1.60x0.80mm)
pins: 1, 2

## INDUCTOR_FIXED_LQM21NNR47K10D
designator L?, comment Inductance: 470 nH  (hidden comment: LQM21NNR47K10D)
FIXED IND 470NH 200MA 570MOHM SMD; Manufacturer: Murata Electronics; DC Resistance (DCR): 570mOhm Max; Manufacturer Part Number: LQM21NNR47K10D; Current Rating (Amps): 200 mA; Current - Saturation (Isat): -
footprint INDUCTOR_FIXED_0805
pins: 1, 2

## INDUCTOR_FIXED_SRR1210-220M
designator L?, comment Inductance: 22 µH  (hidden comment: SRR1210-220M)
FIXED IND 22UH 5.2A 38 MOHM SMD; Manufacturer: Bourns; Current - Saturation (Isat): 4.5A; DC Resistance (DCR): 38mOhm Max; Manufacturer Part Number: SRR1210-220M; Current Rating (Amps): 5.2 A; LCSC Part: C338845
footprint INDUCTOR_FIXED_12mmx12mm (0.472" L x 0.472" W (12.00mm x 12.00mm))
pins: 1, 2

## IP175G
designator U?
5 Port 10/100 Ethernet Integrated Switch; Manufacturer: IC Plus; Manufacturer Part Number: IP175G; Datasheet: https://www.micros.com.pl/mediaserver/info-uiip175gh.pdf; LCSC Part: C80220
footprint 48-QFN-EPAD (QFN 48-Leads, Body 6x6mm, Pitch 0.40mm)
pins: 1 TXOM1, 2 TXOP1, 3 RXIM1, 4 RXIP1, 5 BGRES, 6 PLLGND (power), 7 PLLVCC (power), 8 RXIP2, 9 RXIM2, 10 TXOP2, 11 TXOM2, 12 AV33 (power), 13 AV10 (power), 14 RXIP3, 15 RXIM3, 16 TXOP3, 17 TXOM3, 18 AV33 (power), 19 TXOM4, 20 TXOP4, 21 RXIM4, 22 RXIP4, 23 OSCI (in), 24 X2 (out), 25 FXSD7, 26 RESETB (in), 27 DVDD (power), 28 F_POWER_OFF (power), 29 TEST1, 30 AUTO_FACTORY_TEST, 31 F_POWER_OFF_LED/VLAN_DIS, 32 LINK_LED4/Hi_PRI[2] (out), 33 LINK_LED3/Hi_PRI[1] (out), 34 PVDD (power), 35 LINK_LED2/REDUCE_IPG_EN (out), 36 LINK_LED1/SCLK/BF_STM_DIS (out), 37 LINK_LED0 (out), 38 SCL/MDC, 39 SDA/MDIO, 40 DVDD (power), 41 VREG_LDO (power), 42 PVDD_LDO (power), 43 AV10 (power), 44 RXIP0, 45 RXIM0, 46 TXOP0, 47 TXOM0, 48 AV33 (power), 49 EPAD (power)
text: E-Pad GND; /COS_DIS; /SDATA

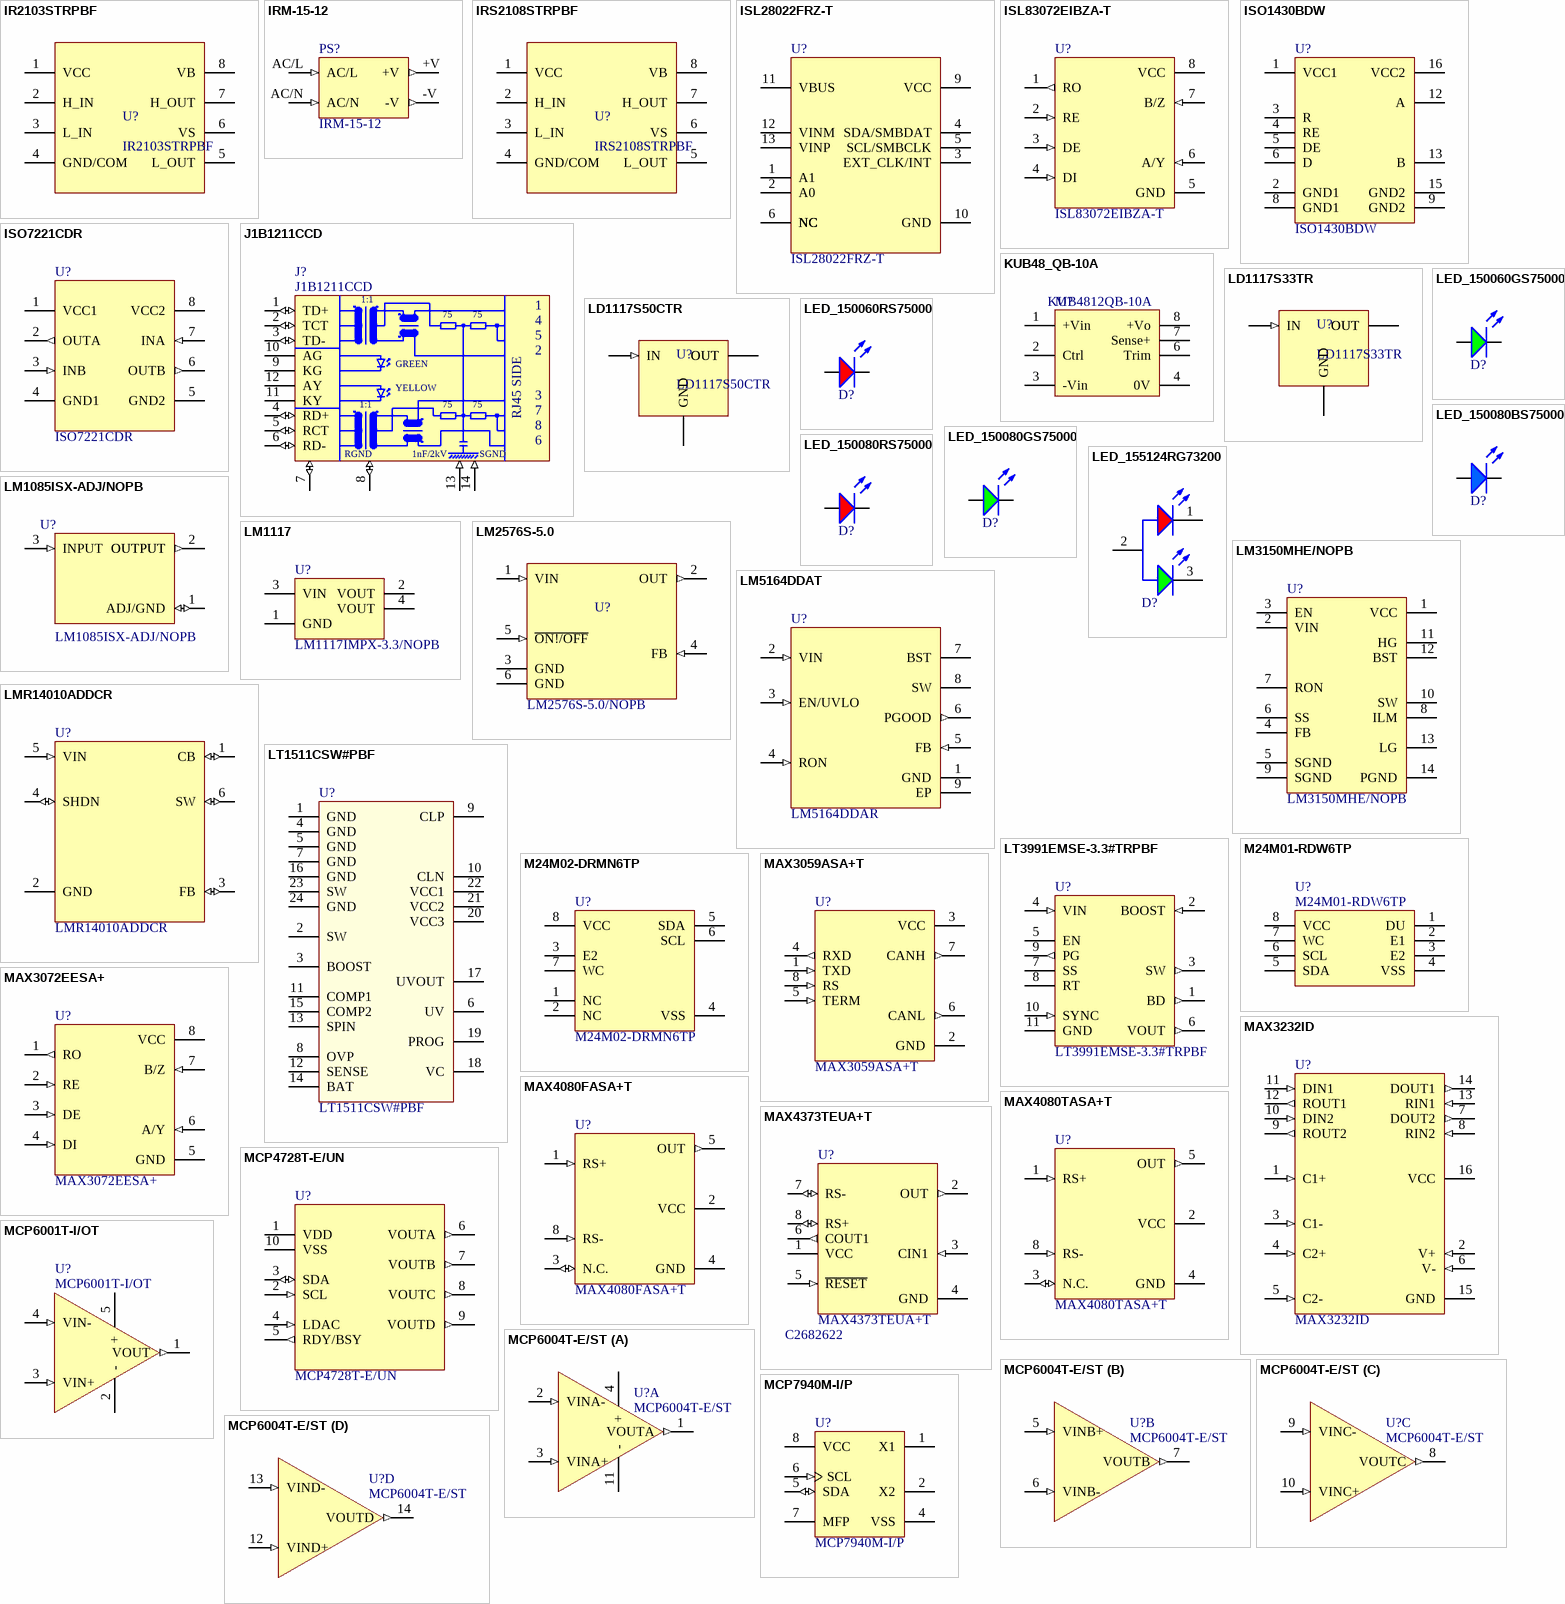
[diagram p6: symbols IR2103STRPBF to MCP7940M-I/P]

## IR2103STRPBF
designator U?
IC GATE DRVR HALF-BRIDGE 8SOIC; Manufacturer: Infineon Technologies; Manufacturer Part Number: IR2103STRPBF
footprint SOIC-8 (0.154", 3.90mm Width)
pins: 1 VCC, 2 H_IN, 3 L_IN, 4 GND/COM, 5 L_OUT, 6 VS, 7 H_OUT, 8 VB

## IRM-15-12
designator PS?
AC/DC CONVERTER 12V 15W; Manufacturer: MEAN WELL USA Inc.; Manufacturer Part Number: IRM-15-12; LCSC Part: C6394169
footprint CONV_IRM-15-3.3
pins: +V (out), -V (out), AC/L (in), AC/N (in)

## IRS2108STRPBF
designator U?
IC GATE DRVR HALF-BRIDGE 8SOIC; Manufacturer: Infineon Technologies; Manufacturer Part Number: IRS2108STRPBF; Datasheet: https://rocelec.widen.net/view/pdf/spuj5alwag/IRSDS08085-1.pdf?t.download=true&u=5oefqw
footprint SOIC-8 (0.154", 3.90mm Width)
pins: 1 VCC, 2 H_IN, 3 L_IN, 4 GND/COM, 5 L_OUT, 6 VS, 7 H_OUT, 8 VB

## ISL28022FRZ-T
designator U?
IC PWR MONITOR 16QFN; Manufacturer: Renesas Electronics Corporation; Manufacturer Part Number: ISL28022FRZ-T; LCSC Part: C5741743
footprint 16-VFQFN Exposed Pad (16-VQFN (3x3))
pins: 1 A1, 2 A0, 3 EXT_CLK/INT, 4 SDA/SMBDAT, 5 SCL/SMBCLK, 6 NC, 7 NC, 8 NC, 9 VCC, 10 GND, 11 VBUS, 12 VINM, 13 VINP, 14 NC, 15 NC, 16 NC, 17 EP hidden to GND

## ISL83072EIBZA-T
designator U?
1/1 Transceiver Half RS422, RS485 8-SOIC; Manufacturer: Renesas Electronics America Inc; Manufacturer Part Number: ISL83072EIBZA-T; Datasheet: https://www.renesas.com/us/en/document/dst/isl83071e-isl83072e-isl83073e-isl83075e-isl83076e-isl83077e-isl83078e-isl83070e-datasheet; LCSC Part: C382021
footprint SOIC-8 (0.154", 3.90mm Width)
pins: 1 RO (out), 2 RE (in), 3 DE (in), 4 DI (in), 5 GND (power), 6 A/Y (in), 7 B/Z (in), 8 VCC (power)

## ISO1430BDW
designator U?
IC TXRX/ISO HALF 1/1 16SOIC; Manufacturer: Texas Instruments; Manufacturer Part Number: ISO1430BDW; Datasheet: https://www.ti.com/general/docs/suppproductinfo.tsp?distId=10&gotoUrl=https%3A%2F%2Fwww.ti.com%2Flit%2Fgpn%2Fiso1430
footprint SOIC-16 ((0.295", 7.50mm Width))
pins: 1 VCC1, 2 GND1, 3 R, 4 RE, 5 DE, 6 D, 7 NC hidden, 8 GND1, 9 GND2, 10 NC hidden, 11 NC hidden, 12 A, 13 B, 14 NC hidden, 15 GND2, 16 VCC2

## ISO7221CDR
designator U?
DGTL ISO 2500VRMS 2CH GP 8SOIC; Manufacturer: Texas Instruments; Manufacturer Part Number: ISO7221CDR; LCSC Part: C69151
footprint SOIC-8 (0.154", 3.90mm Width)
pins: 1 VCC1, 2 OUTA (out), 3 INB (in), 4 GND1, 5 GND2, 6 OUTB (out), 7 INA (in), 8 VCC2

## J1B1211CCD
designator J?
CONN JACK 1PORT 100 BASE-T PCB; Manufacturer: WIZnet; Manufacturer Part Number: J1B1211CCD; Datahseet: https://www.wiznet.hk/en/index.php?controller=attachment&id_attachment=2; LCSC Part: C910371
footprint J1B1211CCD
pins: 1 TD+ (io), 2 TCT (io), 3 TD- (io), 4 RD+ (io), 5 RCT (io), 6 RD- (io), 7 NC (io), 8 RGND (io), 9 KG, 10 AG, 11 KY, 12 AY, 13 GND1 (in), 14 GND2 (in)
text: 1:1; 75; GREEN; YELLOW; RJ45 SIDE; 1nF/2kV; SGND

## KUB48_QB-10A
designator M?, comment KUB4812QB-10A
DC/DC CONVERTER 12V 10A; Manufacturer: Mornsun; Manufacturer Part Number: KUB4812QB-10A
footprint KUB48_QB-10A
pins: 1 +Vin, 2 Ctrl, 3 -Vin, 4 0V, 6 Trim, 7 Sense+, 8 +Vo

## LD1117S33TR
designator U?
IC REG LINEAR 3.3V 800MA SOT223; Manufacturer: STMicroelectronics; Manufacturer Part Number: LD1117S33TR; Datasheet: https://www.st.com/content/ccc/resource/technical/document/datasheet/99/3b/7d/91/91/51/4b/be/CD00000544.pdf/files/CD00000544.pdf/jcr:content/translations/en.CD00000544.pdf; LCSC Part: C86781
footprint SOT-223 (TO-261-4, TO-261AA)
pins: 1 GND (power), 2 OUT, 3 IN (in), 4 OUT

## LD1117S50CTR
designator U?
IC REG LINEAR 5V 800MA SOT223; Manufacturer: STMicroelectronics; Manufacturer Part Number: LD1117S50CTR; Datasheet: https://www.st.com/content/ccc/resource/technical/document/datasheet/99/3b/7d/91/91/51/4b/be/CD00000544.pdf/files/CD00000544.pdf/jcr:content/translations/en.CD00000544.pdf; LCSC Part: C81157
footprint SOT-223 (TO-261-4, TO-261AA)
pins: 1 GND (power), 2 OUT, 3 IN (in), 4 OUT

## LED_150060GS75000
designator D?, comment 150060GS75000  (value not drawn)
LED GREEN CLEAR 0603 SMD; Manufacturer: Wurth Elektronik; Dominant Wavelength: 525nm; Forward Voltage: 3.2V; Luminous Intensity: 430mcd; Manufacturer Part Number: 150060GS75000; Emitting Color: Green; LCSC Part: C84264
footprint LED_0603 (SMD Mono-color Chip LED, body 1.6x0.8mm)
pins: 1 K, 2 A

## LED_150060RS75000
designator D?, comment 150060RS75000  (value not drawn)
LED RED CLEAR 0603 SMD; Manufacturer: Wurth Elektronik; Dominant Wavelength: 625nm; Luminous Intensity: 250mcd; Manufacturer Part Number: 150060RS75000; Emitting Color: Red; LCSC Part: NCD0603R1
footprint LED_0603 (SMD Mono-color Chip LED, body 1.6x0.8mm)
pins: 1 K, 2 A

## LED_150080BS75000
designator D?, comment 150080BS75000  (value not drawn)
LED BLUE CLEAR 0805 SMD; Manufacturer: Wurth Elektronik; Dominant Wavelength: 625nm; Luminous Intensity: 150mcd; Manufacturer Part Number: 150080BS75000; Emitting Color: Blue; LCSC Part: C84259
footprint LED_0805 (Footprint not found)
pins: 1 K, 2 A

## LED_150080GS75000
designator D?, comment 150080GS75000  (value not drawn)
LED GREEN CLEAR 0805 SMD; Manufacturer: Wurth Elektronik; Dominant Wavelength: 525nm; Forward Voltage: 3.2V; Luminous Intensity: 450mcd; Manufacturer Part Number: 150080GS75000; Emitting Color: Green; LCSC Part: C84257
footprint LED_0805 (Footprint not found)
pins: 1 K, 2 A

## LED_150080RS75000
designator D?, comment 150080RS75000  (value not drawn)
LED RED CLEAR 0805 SMD; Manufacturer: Wurth Elektronik; Dominant Wavelength: 625nm; Luminous Intensity: 150mcd; Manufacturer Part Number: 150080RS75000; Emitting Color: Red; LCSC Part: C84256
footprint LED_0805 (Footprint not found)
pins: 1 K, 2 A

## LED_155124RG73200
designator D?, comment Red & Green, 120°  (value not drawn)
WL-SBSW SMT Bi-color Side View Waterclear, size 1204, Red & Green, 120°; Manufacturer: Wurth Elektronik; Manufacturer Part Number: 155124RG73200; ComponentLink1Description: Website Link; ComponentLink1URL: https://www.we-online.com/redexpert/article/155124RG73200?ad; ComponentLink2Description: Datasheet Link; ComponentLink2URL: https://www.we-online.com/redexpert/spec/155124RG73200?ad
footprint LED_WL-SBSW_1204 (SMD Bi-color Side view Waterclear, body 3.2x1mm)
pins: 1 K, 2 A, 3 K

## LM1085ISX-ADJ/NOPB
designator U?
IC REG LIN POS ADJ 3A DDPAK; Manufacturer: Texas Instruments; Manufacturer Part Number: LM1085ISX-ADJ/NOPB; LCSC Part: C189886
footprint TO-263-4 (D2PAK (3 Leads + Tab), TO-263AA, TO-263 (DDPAK-3))
pins: 1 ADJ/GND (io), 2 OUTPUT (out), 3 INPUT (in), 4 OUTPUT (out)

## LM1117
designator U?, comment LM1117IMPX-3.3/NOPB
IC REG LIN 3.3V 800MA SOT223-4; Manufacturer: Texas Instruments; Manufacturer Part Number: LM1117IMPX-3.3/NOPB; LCSC Part: C23984
footprint SOT-223-4 (SOT223, 4-Leads, Body 6.50x7.00mm (avg), Pitch 2.30mm)
pins: 1 GND, 2 VOUT, 3 VIN, 4 VOUT

## LM2576S-5.0
designator U?, comment LM2576S-5.0/NOPB
IC REG BUCK 5V 3A TO263-5; Manufacturer: Texas Instruments; Manufacturer Part Number: LM2576S-5.0/NOPB
footprint TO-263-6 (DDPAK/TO-263-5)
pins: 1 VIN (in), 2 OUT (out), 3 GND (power), 4 FB (in), 5 ~{ON!/OFF} (in), 6 GND (power)

## LM3150MHE/NOPB
designator U?
IC REG CTRLR BUCK 14TSSOP; Manufacturer: Texas Instruments; Manufacturer Part Number: LM3150MHE/NOPB; LCSC Part: C2864227
footprint 14-HTSSOP (14-PowerTSSOP (0.173", 4.40mm Width))
pins: 1 VCC, 2 VIN, 3 EN, 4 FB, 5 SGND, 6 SS, 7 RON, 8 ILM, 9 SGND, 10 SW, 11 HG, 12 BST, 13 LG, 14 PGND

## LM5164DDAT
designator U?, comment LM5164DDAR
IC REG BUCK ADJ 1A 8SOPWR; Manufacturer: Texas Instruments; Manufacturer Part Number: LM5164DDAR; LCSC Part: C477928
footprint 8-PowerSOIC (8-SO PowerPad (0.154", 3.90mm Width))
pins: 1 GND (power), 2 VIN (in), 3 EN/UVLO (in), 4 RON (in), 5 FB (in), 6 PGOOD (out), 7 BST (power), 8 SW (power), 9 EP (power)

## LMR14010ADDCR
designator U?
IC REG BUCK ADJ 1A TSOT23-6; Manufacturer: Texas Instruments; Manufacturer Part Number: LMR14010ADDCR
footprint TSOT-23-6 (SOT-23-6 Thin, TSOT-23-6)
pins: 1 CB (io), 2 GND (power), 3 FB (io), 4 SHDN (io), 5 VIN (in), 6 SW (io)

## LT1511CSW#PBF
designator U?
IC BATT CHG MULTI-CHEM 24SOIC; Manufacturer: Analog Devices Inc.; Manufacturer Part Number: LT1511CSW#PBF
footprint 24-SOIC (24-SOIC (0.295", 7.50mm Width))
pins: 1 GND, 2 SW, 3 BOOST, 4 GND, 5 GND, 6 UV, 7 GND, 8 OVP, 9 CLP, 10 CLN, 11 COMP1, 12 SENSE, 13 SPIN, 14 BAT, 15 COMP2, 16 GND, 17 UVOUT, 18 VC, 19 PROG, 20 VCC3, 21 VCC2, 22 VCC1, 23 SW, 24 GND

## LT3991EMSE-3.3#TRPBF
designator U?
IC REG BUCK 3.3V 1.2A 10MSOP; Manufacturer: Analog Devices Inc.; Manufacturer Part Number: LT3991EMSE-3.3#TRPBF; Datasheet: https://www.analog.com/media/en/technical-documentation/data-sheets/3991fa.pdf
footprint MSOP-10-EP (10-TFSOP, 10-MSOP (0.118", 3.00mm Width) Exposed Pad)
pins: 1 BD (out), 2 BOOST (in), 3 SW (out), 4 VIN (in), 5 EN, 6 VOUT (out), 7 SS, 8 RT, 9 PG (out), 10 SYNC (in), 11 GND

## M24M01-RDW6TP
designator U?
IC EEPROM 1MBIT I2C 1MHZ 8TSSOP; Manufacturer: STMicroelectronics; LCSC Part: C283500; Manufacturer Part Number: M24M01-RDW6TP; ComponentLink1URL: https://datasheet.ciiva.com/15123/getdatasheetpartid-572481-15123825.pdf?src-supplier=Verical; ComponentLink1Description: https://datasheet.ciiva.com/15123/getdatasheetpartid-572481-15123825.pdf?src-supplier=Verical; ComponentLink2URL: https://datasheet.ciiva.com/29611/cd00147128-29611846.pdf?src-supplier=Digikey; ComponentLink2Description: https://datasheet.ciiva.com/29611/cd00147128-29611846.pdf?src-supplier=Digikey
footprint 8-TSSOP (8-MSOP (0.118", 3.00mm Width))
pins: 1 DU, 2 E1, 3 E2, 4 VSS, 5 SDA, 6 SCL, 7 WC, 8 VCC

## M24M02-DRMN6TP
designator U?
IC EEPROM 2MBIT I2C 1MHZ 8SOIC; Manufacturer: STMicroelectronics; Manufacturer Part Number: M24M02-DRMN6TP; LCSC Part: C115042
footprint SOIC-8 (0.154", 3.90mm Width)
pins: 1 NC, 2 NC, 3 E2, 4 VSS, 5 SDA, 6 SCL, 7 WC, 8 VCC

## MAX3059ASA+T
designator U?
1/1 Transceiver Full CANbus 8-SOIC; Manufacturer: Maxim Integrated; Manufacturer Part Number: MAX3059ASA+T; Datasheet: https://www.analog.com/media/en/technical-documentation/data-sheets/MAX3058-MAX3059.pdf
footprint SOIC-8 (0.154", 3.90mm Width)
pins: 1 TXD (in), 2 GND (power), 3 VCC (power), 4 RXD (out), 5 TERM (in), 6 CANL (out), 7 CANH (out), 8 RS (in)

## MAX3072EESA+
designator U?
IC TRANSCEIVER HALF 1/1 8SOIC; Manufacturer: Analog Devices Inc./Maxim Integrated; Manufacturer Part Number: MAX3072EESA+; Datasheet: https://datasheets.maximintegrated.com/en/ds/MAX3070E-MAX3079E.pdf; LCSC Part: C113252
footprint SOIC-8 (0.154", 3.90mm Width)
pins: 1 RO (out), 2 RE (in), 3 DE (in), 4 DI (in), 5 GND (power), 6 A/Y (in), 7 B/Z (in), 8 VCC (power)

## MAX3232ID
designator U?
IC TRANSCEIVER FULL 2/2 16SOIC; Manufacturer: Texas Instruments; Manufacturer Part Number: MAX3232ID; LCSC Part: C354119
footprint SOIC-16 ((0.295", 7.50mm Width))
pins: 1 C1+ (in), 2 V+ (in), 3 C1- (in), 4 C2+ (in), 5 C2- (in), 6 V- (in), 7 DOUT2 (out), 8 RIN2 (in), 9 ROUT2 (out), 10 DIN2 (in), 11 DIN1 (in), 12 ROUT1 (out), 13 RIN1 (in), 14 DOUT1 (out), 15 GND (power), 16 VCC (power)

## MAX4080FASA+T
designator U?
IC CURRENT SENSE 1 CIRCUIT 8SOIC; Manufacturer: Analog Devices Inc./Maxim Integrated; Manufacturer Part Number: MAX4080FASA+T
footprint SOIC-8 (0.154", 3.90mm Width)
pins: 1 RS+ (in), 2 VCC (power), 3 N.C. (io), 4 GND (power), 5 OUT (out), 6 N.C. (io) hidden to 3, 7 N.C. (io) hidden to 3, 8 RS- (in)

## MAX4080TASA+T
designator U?
IC CURRENT SENSE 1 CIRCUIT 8SOIC; Manufacturer: Analog Devices Inc./Maxim Integrated; Manufacturer Part Number: MAX4080TASA+T
footprint SOIC-8 (0.154", 3.90mm Width)
pins: 1 RS+ (in), 2 VCC (power), 3 N.C. (io), 4 GND (power), 5 OUT (out), 6 N.C. (io) hidden to 3, 7 N.C. (io) hidden to 3, 8 RS- (in)

## MAX4373TEUA+T
designator U?  LCSC Part: C2682622
IC AMP COMP REF 8UMAX; Manufacturer: Analog Devices Inc./Maxim Integrated; Manufacturer Part Number: MAX4373TEUA+T
footprint 8-TSSOP (8-MSOP (0.118", 3.00mm Width))
pins: 1 VCC (power), 2 OUT (out), 3 CIN1 (in), 4 GND (power), 5 ~{RESET} (in), 6 COUT1 (out), 7 RS- (io), 8 RS+ (io)

## MCP4728T-E/UN
designator U?
IC DAC 12BIT V-OUT 10MSOP; Manufacturer: Microchip; Manufacturer Part Number: MCP4728T-E/UN; LCSC Part: C478093
footprint 10-MSOP (10-TFSOP, 10-MSOP (0.118", 3.00mm Width))
pins: 1 VDD (power), 2 SCL (in), 3 SDA (io), 4 LDAC (in), 5 RDY/BSY (out), 6 VOUTA (out), 7 VOUTB (out), 8 VOUTC (out), 9 VOUTD (out), 10 VSS (power)

## MCP6001T-I/OT
designator U?
IC OPAMP GP 1 CIRCUIT SOT23-5; Manufacturer: Microchip Technology; Manufacturer Part Number: MCP6001T-I/OT; LCSC Part: C116490
footprint SOT-23-5 (SC-74A, SOT-753)
pins: 1 VOUT (out), 2 - (power), 3 VIN+ (in), 4 VIN- (in), 5 + (power)

## MCP6004T-E/ST
designator U?
IC OPAMP GP 4 CIRCUIT 14TSSOP; Manufacturer: Microchip; Manufacturer Part Number: MCP6004T-E/ST
footprint 14-TSSOP (14-TSSOP (0.173", 4.40mm Width))
part A pins: 1 VOUTA (out), 2 VINA- (in), 3 VINA+ (in), 4 + (power), 11 -
part B pins: 5 VINB+ (in), 6 VINB- (in), 7 VOUTB (out)
part C pins: 8 VOUTC (out), 9 VINC- (in), 10 VINC+ (in)
part D pins: 12 VIND+ (in), 13 VIND- (in), 14 VOUTD (out)

## MCP7940M-I/P
designator U?
IC RTC CLOCK/CALENDAR I2C 8DIP; Manufacturer: Microchip Technology; Manufacturer Part Number: MCP7940M-I/P
footprint 8-DIP (8-DIP (0.300", 7.62mm))
pins: 1 X1, 2 X2, 3 NC hidden, 4 VSS (power), 5 SDA (io), 6 SCL (in), 7 MFP, 8 VCC (power)

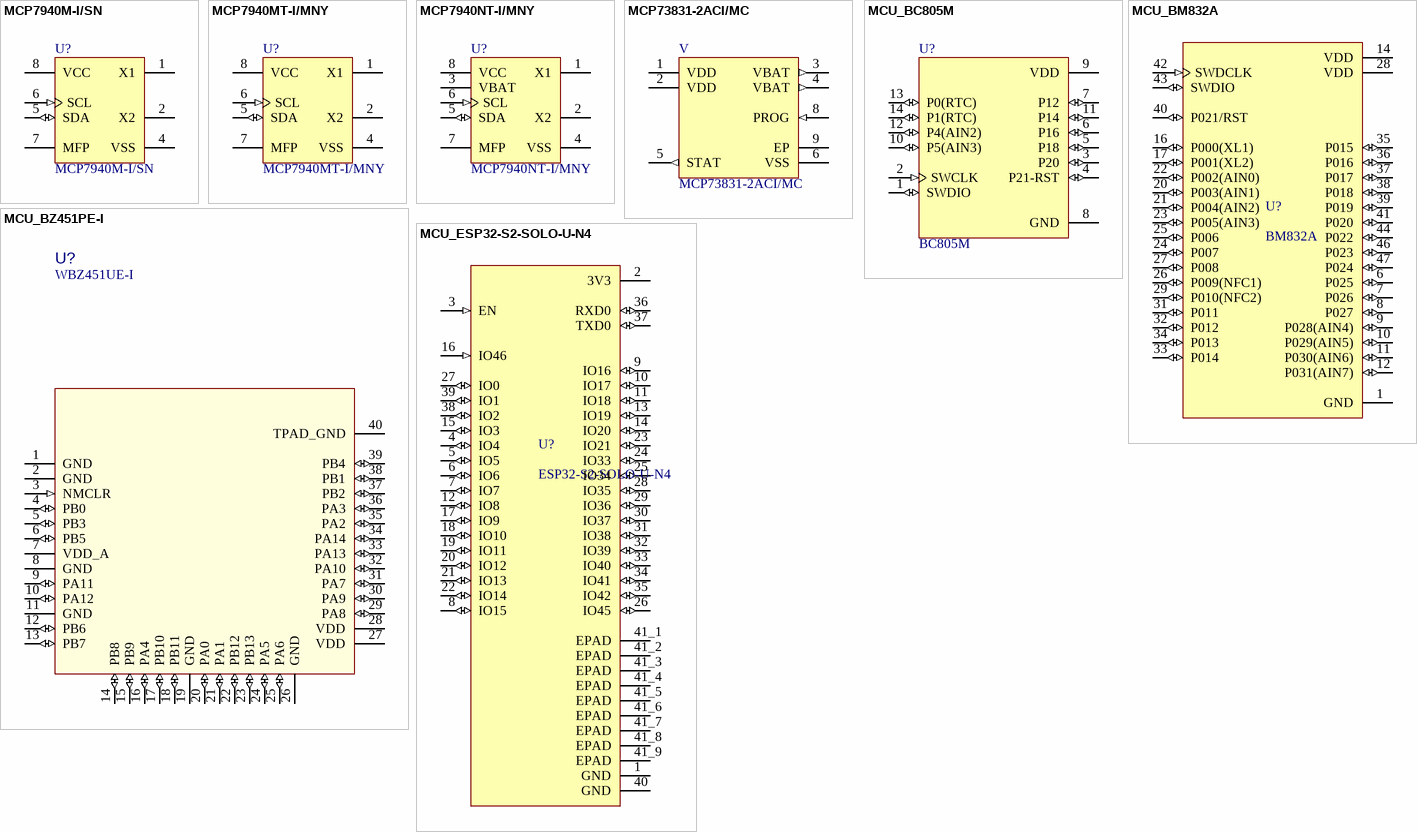
[diagram p7: symbols MCP7940M-I/SN to MCU_ESP32-S2-SOLO-U-N4]

## MCP7940M-I/SN
designator U?
IC RTC CLK/CALENDAR I2C 8SOIC; Manufacturer: Microchip Technology; Manufacturer Part Number: MCP7940M-I/SN
footprint SOIC-8 (0.154", 3.90mm Width)
pins: 1 X1, 2 X2, 3 NC hidden, 4 VSS (power), 5 SDA (io), 6 SCL (in), 7 MFP, 8 VCC (power)

## MCP7940MT-I/MNY
designator U?
IC RTC CLK/CALENDAR I2C 8TDFN; Manufacturer: Microchip Technology; Manufacturer Part Number: MCP7940MT-I/MNY
footprint 8-WFDFN (2x3) Exposed Pad
pins: 1 X1, 2 X2, 3 NC hidden, 4 VSS (power), 5 SDA (io), 6 SCL (in), 7 MFP, 8 VCC (power)

## MCP7940NT-I/MNY
designator U?
IC RTC CLK/CALENDAR I2C 8TDFN; Manufacturer: Microchip Technology; Manufacturer Part Number: MCP7940NT-I/MNY
footprint 8-WFDFN (2x3) Exposed Pad
pins: 1 X1, 2 X2, 3 VBAT, 4 VSS (power), 5 SDA (io), 6 SCL (in), 7 MFP, 8 VCC (power)

## MCP73831-2ACI/MC
designator V
IC BATT CONTRL LI-ION 1CELL 8DFN; Manufacturer: Microchip; Manufacturer Part Number: MCP73831-2ACI/MC; LCSC Part: C150772
footprint 8-VFDFN Exposed Pad (8-DFN (2x3))
pins: 1 VDD (power), 2 VDD (power), 3 VBAT (out), 4 VBAT (out), 5 STAT (out), 6 VSS (power), 8 PROG (in), 9 EP (power)

## MCU_BC805M
designator U?, comment BC805M
RF TXRX MODULE BT PCB TRACE SMD; Manufacturer: Fanstel Corp.; Manufacturer Prart Number: BC805M
footprint XCVR_BC805M
pins: 1 SWDIO (io), 2 SWCLK (in), 3 P20 (io), 4 P21-RST (io), 5 P18 (io), 6 P16 (io), 7 P12 (io), 8 GND (power), 9 VDD (power), 10 P5(AIN3) (io), 11 P14 (io), 12 P4(AIN2) (io), 13 P0(RTC) (io), 14 P1(RTC) (io)

## MCU_BM832A
designator U?, comment BM832A
RF TXRX MODULE BT PCB TRACE SMD; Manufacturer: Fanstel; Manufacturer Part Number: BM832A
footprint XCVR_BM832A
pins: 1 GND (power), 2 GND (power), 3 GND (power), 4 GND (power), 5 GND (power), 6 P025 (io), 7 P026 (io), 8 P027 (io), 9 P028(AIN4) (io), 10 P029(AIN5) (io), 11 P030(AIN6) (io), 12 P031(AIN7) (io), 13 GND (power), 14 VDD (power), 15 GND (power), 16 P000(XL1) (io), 17 P001(XL2) (io), 18 GND (power), 19 GND (power), 20 P003(AIN1) (io), 21 P004(AIN2) (io), 22 P002(AIN0) (io), 23 P005(AIN3) (io), 24 P007 (io), 25 P006 (io), 26 P009(NFC1) (io), 27 P008 (io), 28 VDD (power), 29 P010(NFC2) (io), 30 GND (power), 31 P011 (io), 32 P012 (io), 33 P014 (io), 34 P013 (io), 35 P015 (io), 36 P016 (io), 37 P017 (io), 38 P018 (io), 39 P019 (io), 40 P021/RST (io), 41 P020 (io), 42 SWDCLK (in), 43 SWDIO (io), 44 P022 (io), 45 GND (power), 46 P023 (io), 47 P024 (io)

## MCU_BZ451PE-I
designator U?, comment WBZ451UE-I
RF TXRX MODULE BT U.FL SMD; Manufacturer: Microchip Technology; Revision: 2; Manufacturer Part Number: WBZ451UE-I; LCSC Part: C6000625
footprint MOD_WBZ451PE-I
pins: 1 GND (power), 2 GND (power), 3 NMCLR (in), 4 PB0 (io), 5 PB3 (io), 6 PB5 (io), 7 VDD_A (power), 8 GND (power), 9 PA11 (io), 10 PA12 (io), 11 GND (power), 12 PB6 (io), 13 PB7 (io), 14 PB8 (io), 15 PB9 (io), 16 PA4 (io), 17 PB10 (io), 18 PB11 (io), 19 GND (power), 20 PA0 (io), 21 PA1 (io), 22 PB12 (io), 23 PB13 (io), 24 PA5 (io), 25 PA6 (io), 26 GND (power), 27 VDD (power), 28 VDD (power), 29 PA8 (io), 30 PA9 (io), 31 PA7 (io), 32 PA10 (io), 33 PA13 (io), 34 PA14 (io), 35 PA2 (io), 36 PA3 (io), 37 PB2 (io), 38 PB1 (io), 39 PB4 (io), 40 TPAD_GND

## MCU_ESP32-S2-SOLO-U-N4
designator U?, comment ESP32-S2-SOLO-U-N4
SMD MODULE, ESP32-S2, 4 MB SPI F; Manufacturer: Espressif Systems; Datasheet: https://www.espressif.com/sites/default/files/documentation/esp32-s2-solo-2_esp32-s2-solo-2u_datasheet_en.pdf; Manufacturer Part Number: ESP32-S2-SOLO-U-N4
footprint MCU_ESP32-S2-SOLO-U-N4 (Footprint not found)
pins: 1 GND (power), 2 3V3 (power), 3 EN (in), 4 IO4 (io), 5 IO5 (io), 6 IO6 (io), 7 IO7 (io), 8 IO15 (io), 9 IO16 (io), 10 IO17 (io), 11 IO18 (io), 12 IO8 (io), 13 IO19 (io), 14 IO20 (io), 15 IO3 (io), 16 IO46 (in), 17 IO9 (io), 18 IO10 (io), 19 IO11 (io), 20 IO12 (io), 21 IO13 (io), 22 IO14 (io), 23 IO21 (io), 24 IO33 (io), 25 IO34 (io), 26 IO45 (io), 27 IO0 (io), 28 IO35 (io), 29 IO36 (io), 30 IO37 (io), 31 IO38 (io), 32 IO39 (io), 33 IO40 (io), 34 IO41 (io), 35 IO42 (io), 36 RXD0 (io), 37 TXD0 (io), 38 IO2 (io), 39 IO1 (io), 40 GND (power), 41_1 EPAD (power), 41_2 EPAD (power), 41_3 EPAD (power), 41_4 EPAD (power), 41_5 EPAD (power), 41_6 EPAD (power), 41_7 EPAD (power), 41_8 EPAD (power), 41_9 EPAD (power)

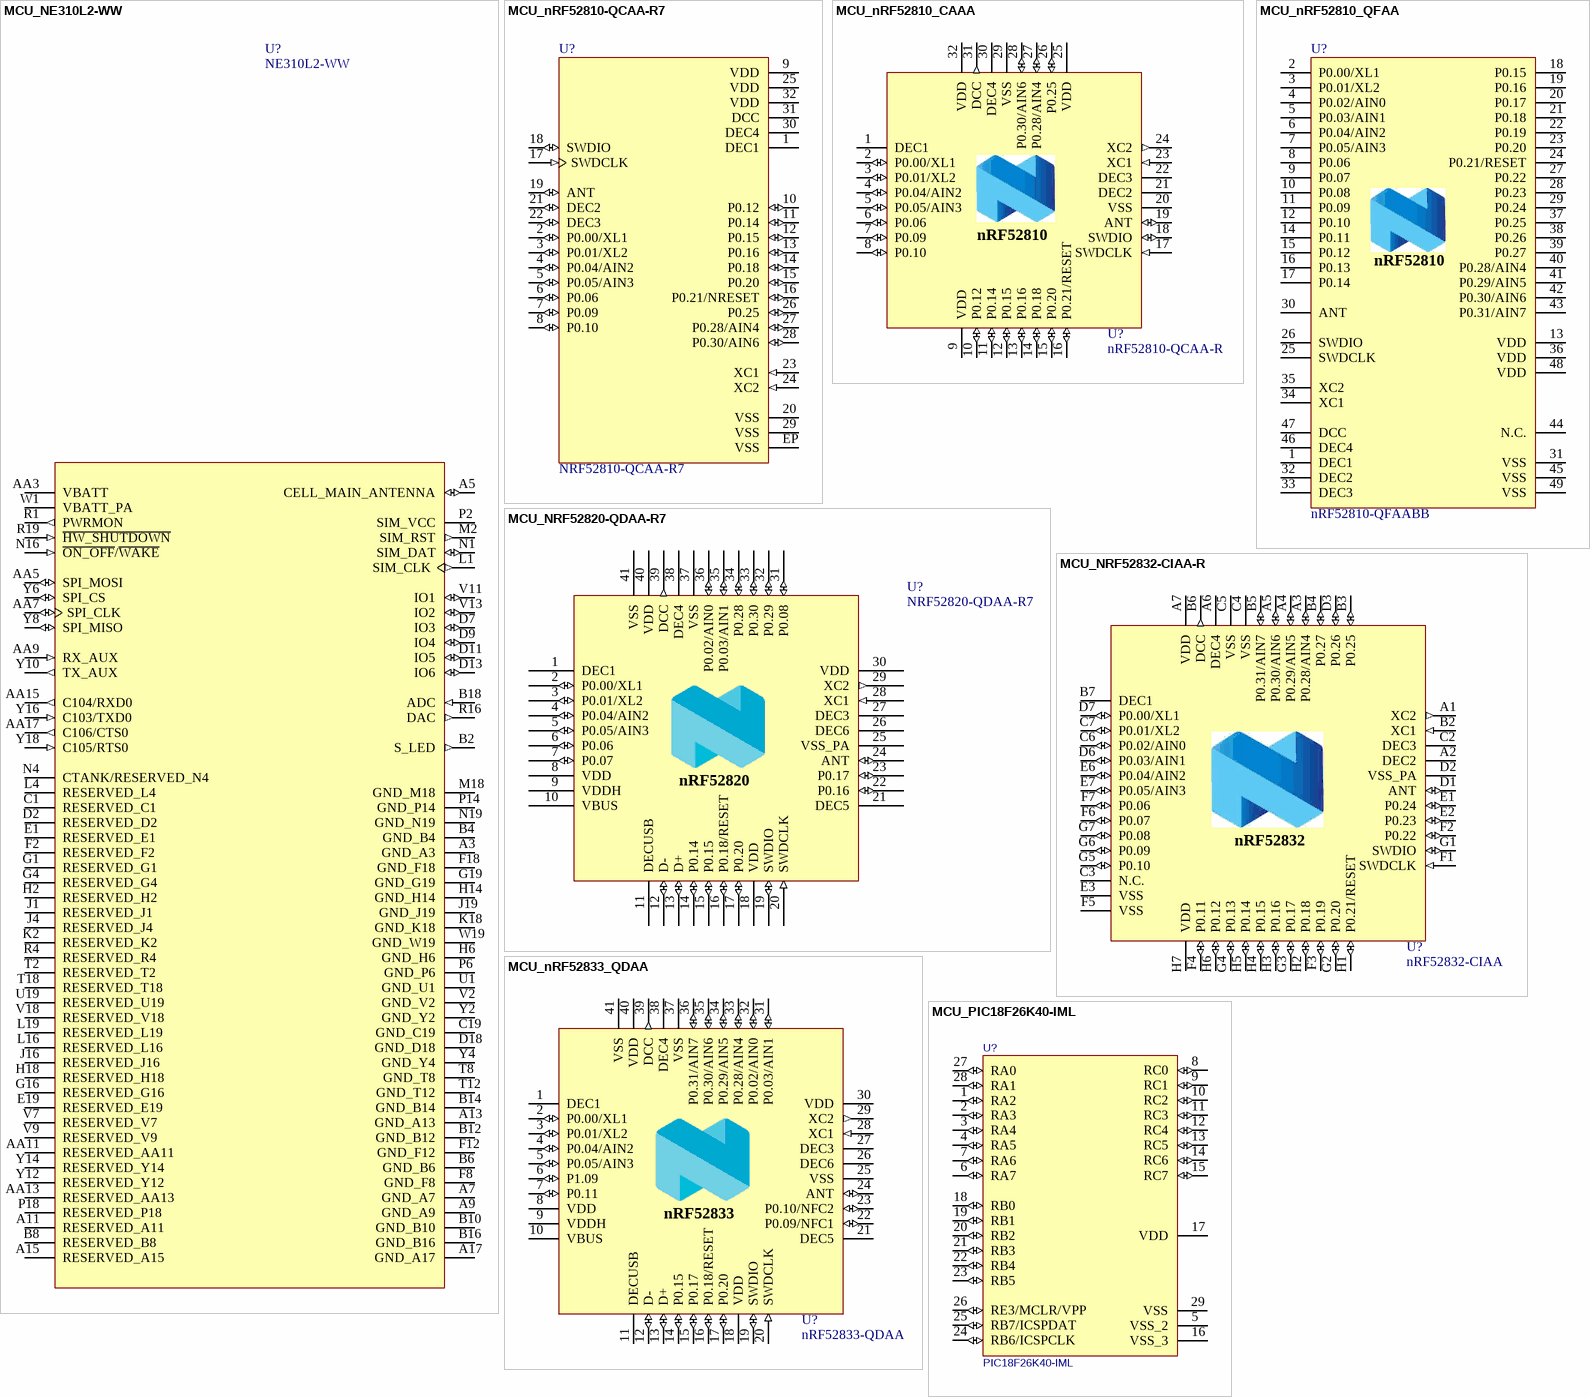
[diagram p8: symbols MCU_NE310L2-WW to MCU_PIC18F26K40-IML]

## MCU_NE310L2-WW
designator U?, comment NE310L2-WW
NB-IoT 2G module Global variant; Manufacturer: Telit; Manufacturer Part Number: NE310L2-WW
footprint XCVR_NE310L2-WW
pins: A3 GND_A3 (power), A5 CELL_MAIN_ANTENNA (io), A7 GND_A7 (power), A9 GND_A9 (power), A11 RESERVED_A11, A13 GND_A13 (power), A15 RESERVED_A15, A17 GND_A17 (power), AA3 VBATT (power), AA5 SPI_MOSI (io), AA7 SPI_CLK (io), AA9 RX_AUX (in), AA11 RESERVED_AA11, AA13 RESERVED_AA13, AA15 C104/RXD0 (out), AA17 C106/CTS0 (out), B2 S_LED (out), B4 GND_B4 (power), B6 GND_B6 (power), B8 RESERVED_B8, B10 GND_B10 (power), B12 GND_B12 (power), B14 GND_B14 (power), B16 GND_B16 (power), B18 ADC (in), C1 RESERVED_C1, C19 GND_C19 (power), D2 RESERVED_D2, D7 IO3 (io), D9 IO4 (io), D11 IO5 (io), D13 IO6 (io), D18 GND_D18 (power), E1 RESERVED_E1, E19 RESERVED_E19, F2 RESERVED_F2, F8 GND_F8 (power), F12 GND_F12 (power), F18 GND_F18 (power), G1 RESERVED_G1, G4 RESERVED_G4, G16 RESERVED_G16, G19 GND_G19 (power), H2 RESERVED_H2, H6 GND_H6 (power), H14 GND_H14 (power), H18 RESERVED_H18, J1 RESERVED_J1, J4 RESERVED_J4, J16 RESERVED_J16, J19 GND_J19 (power), K2 RESERVED_K2, K18 GND_K18 (power), L1 SIM_CLK (out), L4 RESERVED_L4, L16 RESERVED_L16, L19 RESERVED_L19, M2 SIM_RST (out), M18 GND_M18 (power), N1 SIM_DAT (io), N4 CTANK/RESERVED_N4, N16 ~{ON_OFF}/~{WAKE} (in), N19 GND_N19 (power), P2 SIM_VCC (power), P6 GND_P6 (power), P14 GND_P14 (power), P18 RESERVED_P18, R1 PWRMON (out), R4 RESERVED_R4, R16 DAC (out), R19 ~{HW_SHUTDOWN} (in), T2 RESERVED_T2, T8 GND_T8 (power), T12 GND_T12 (power), T18 RESERVED_T18, U1 GND_U1 (power), U19 RESERVED_U19, V2 GND_V2 (power), V7 RESERVED_V7, V9 RESERVED_V9, V11 IO1 (io), V13 IO2 (io), V18 RESERVED_V18, W1 VBATT_PA (power), W19 GND_W19 (power), Y2 GND_Y2 (power), Y4 GND_Y4 (power), Y6 SPI_CS (io), Y8 SPI_MISO (io), Y10 TX_AUX (out), Y12 RESERVED_Y12, Y14 RESERVED_Y14, Y16 C103/TXD0 (in), Y18 C105/RTS0 (in)

## MCU_nRF52810-QCAA-R7
designator U?, comment NRF52810-QCAA-R7
IC RF TXRX+MCU BLUETOOTH 32WFQFN; Manufacturer: Nordic Semiconductor ASA; Manufacturer Part Number: NRF52810-QCAA-R7; LCSC Part: C519278
footprint 32-QFN (5x5) (32-VFQFN Exposed Pad)
pins: 1 DEC1 (power), 2 P0.00/XL1 (io), 3 P0.01/XL2 (io), 4 P0.04/AIN2 (io), 5 P0.05/AIN3 (io), 6 P0.06 (io), 7 P0.09 (io), 8 P0.10 (io), 9 VDD (power), 10 P0.12 (io), 11 P0.14 (io), 12 P0.15 (io), 13 P0.16 (io), 14 P0.18 (io), 15 P0.20 (io), 16 P0.21/NRESET (io), 17 SWDCLK (in), 18 SWDIO (io), 19 ANT (io), 20 VSS (power), 21 DEC2 (io), 22 DEC3 (io), 23 XC1 (in), 24 XC2 (in), 25 VDD (power), 26 P0.25 (io), 27 P0.28/AIN4 (io), 28 P0.30/AIN6 (io), 29 VSS (power), 30 DEC4 (power), 31 DCC (power), 32 VDD (power), EP VSS (power)

## MCU_nRF52810_CAAA
designator U?, comment nRF52810-QCAA-R
IC RF TXRX+MCU BLUETOOTH 32WFQFN; Manufacturer: Nordic Semiconductor; LCSC Part: C519278; Manufacturer Part Number: nRF52810-QCAA-R
footprint 32-VFQFN Exposed Pad (32-HVQFN (5x5))
pins: 1 DEC1 (power), 2 P0.00/XL1 (io), 3 P0.01/XL2 (io), 4 P0.04/AIN2 (io), 5 P0.05/AIN3 (io), 6 P0.06 (io), 7 P0.09 (io), 8 P0.10 (io), 9 VDD (power), 10 P0.12 (io), 11 P0.14 (io), 12 P0.15 (io), 13 P0.16 (io), 14 P0.18 (io), 15 P0.20 (io), 16 P0.21/RESET (io), 17 SWDCLK (in), 18 SWDIO (io), 19 ANT (io), 20 VSS (power), 21 DEC2 (power), 22 DEC3 (power), 23 XC1 (in), 24 XC2 (out), 25 VDD (power), 26 P0.25 (io), 27 P0.28/AIN4 (io), 28 P0.30/AIN6 (io), 29 VSS (power), 30 DEC4 (power), 31 DCC (out), 32 VDD (power)
text: nRF52810

## MCU_nRF52810_QFAA
designator U?, comment nRF52810-QFAABB
IC RF TXRX+MCU BLUETOOTH 48VFQFN; Manufacturer: Nordic Semiconductor; Manufacturer Part Number: nRF52810-QFAABB; LCSC Part: C141828
footprint 48-QFN-EPAD (QFN 48-Leads, Body 6x6mm, Pitch 0.40mm)
pins: 1 DEC1, 2 P0.00/XL1, 3 P0.01/XL2, 4 P0.02/AIN0, 5 P0.03/AIN1, 6 P0.04/AIN2, 7 P0.05/AIN3, 8 P0.06, 9 P0.07, 10 P0.08, 11 P0.09, 12 P0.10, 13 VDD, 14 P0.11, 15 P0.12, 16 P0.13, 17 P0.14, 18 P0.15, 19 P0.16, 20 P0.17, 21 P0.18, 22 P0.19, 23 P0.20, 24 P0.21/RESET, 25 SWDCLK, 26 SWDIO, 27 P0.22, 28 P0.23, 29 P0.24, 30 ANT, 31 VSS, 32 DEC2, 33 DEC3, 34 XC1, 35 XC2, 36 VDD, 37 P0.25, 38 P0.26, 39 P0.27, 40 P0.28/AIN4, 41 P0.29/AIN5, 42 P0.30/AIN6, 43 P0.31/AIN7, 44 N.C., 45 VSS, 46 DEC4, 47 DCC, 48 VDD, 49 VSS
text: nRF52810

## MCU_NRF52820-QDAA-R7
designator U?, comment NRF52820-QDAA-R7
BLUETOOTH 5.3 SOC WITH BUILT-IN; Manufacturer: Nordic Semiconductor; Manufacturer Part Number: NRF52820-QDAA-R7; LCSC Part: C3015612
footprint 40-VFQFN Exposed Pad (40-QFN (5x5))
pins: 1 DEC1 (power), 2 P0.00/XL1 (io), 3 P0.01/XL2 (io), 4 P0.04/AIN2 (io), 5 P0.05/AIN3 (io), 6 P0.06 (io), 7 P0.07 (io), 8 VDD (power), 9 VDDH (power), 10 VBUS (power), 11 DECUSB (power), 12 D- (io), 13 D+ (io), 14 P0.14 (io), 15 P0.15 (io), 16 P0.18/RESET (io), 17 P0.20 (io), 18 VDD (power), 19 SWDIO (io), 20 SWDCLK (in), 21 DEC5 (power), 22 P0.16 (io), 23 P0.17 (io), 24 ANT (io), 25 VSS_PA (power), 26 DEC6 (power), 27 DEC3 (power), 28 XC1 (in), 29 XC2 (out), 30 VDD (power), 31 P0.08 (io), 32 P0.29 (io), 33 P0.30 (io), 34 P0.28 (io), 35 P0.03/AIN1 (io), 36 P0.02/AIN0 (io), 37 VSS (power), 38 DEC4 (power), 39 DCC (out), 40 VDD (power), 41 VSS (power)
text: nRF52820

## MCU_NRF52832-CIAA-R
designator U?, comment nRF52832-CIAA
IC RF TXRX+MCU ISM>1GHZ 50XFBGA; Manufacturer: Nordic Semiconductor; LCSC Part: C509405; Manufacturer Part Number: nRF52832-CIAA
footprint 50-XFBGA, WLCSP (50-WLCSP (2.96x3.23))
pins: A1 XC2 (out), A2 DEC2 (power), A3 P0.28/AIN4 (io), A4 P0.29/AIN5 (io), A5 P0.30/AIN6 (io), A6 DEC4 (power), A7 VDD (power), B2 XC1 (in), B3 P0.25 (io), B4 P0.27 (io), B5 P0.31/AIN7 (io), B6 DCC (out), B7 DEC1 (power), C2 DEC3 (power), C3 N.C. (power), C4 VSS (power), C5 VSS (power), C6 P0.02/AIN0 (io), C7 P0.01/XL2 (io), D1 ANT (io), D2 VSS_PA (power), D3 P0.26 (io), D6 P0.03/AIN1 (io), D7 P0.00/XL1 (io), E1 P0.24 (io), E2 P0.23 (io), E3 VSS (power), E6 P0.04/AIN2 (io), E7 P0.05/AIN3 (io), F1 SWDCLK (in), F2 P0.22 (io), F3 P0.19 (io), F4 P0.11 (io), F5 VSS (power), F6 P0.07 (io), F7 P0.06 (io), G1 SWDIO (io), G2 P0.20 (io), G3 P0.17 (io), G4 P0.13 (io), G5 P0.10 (io), G6 P0.09 (io), G7 P0.08 (io), H1 P0.21/RESET (io), H2 P0.18 (io), H3 P0.16 (io), H4 P0.15 (io), H5 P0.14 (io), H6 P0.12 (io), H7 VDD (power)
text: nRF52832